# Altium schematic symbol library OltestLib.SchLib: 174 symbols (part 2 of 3)
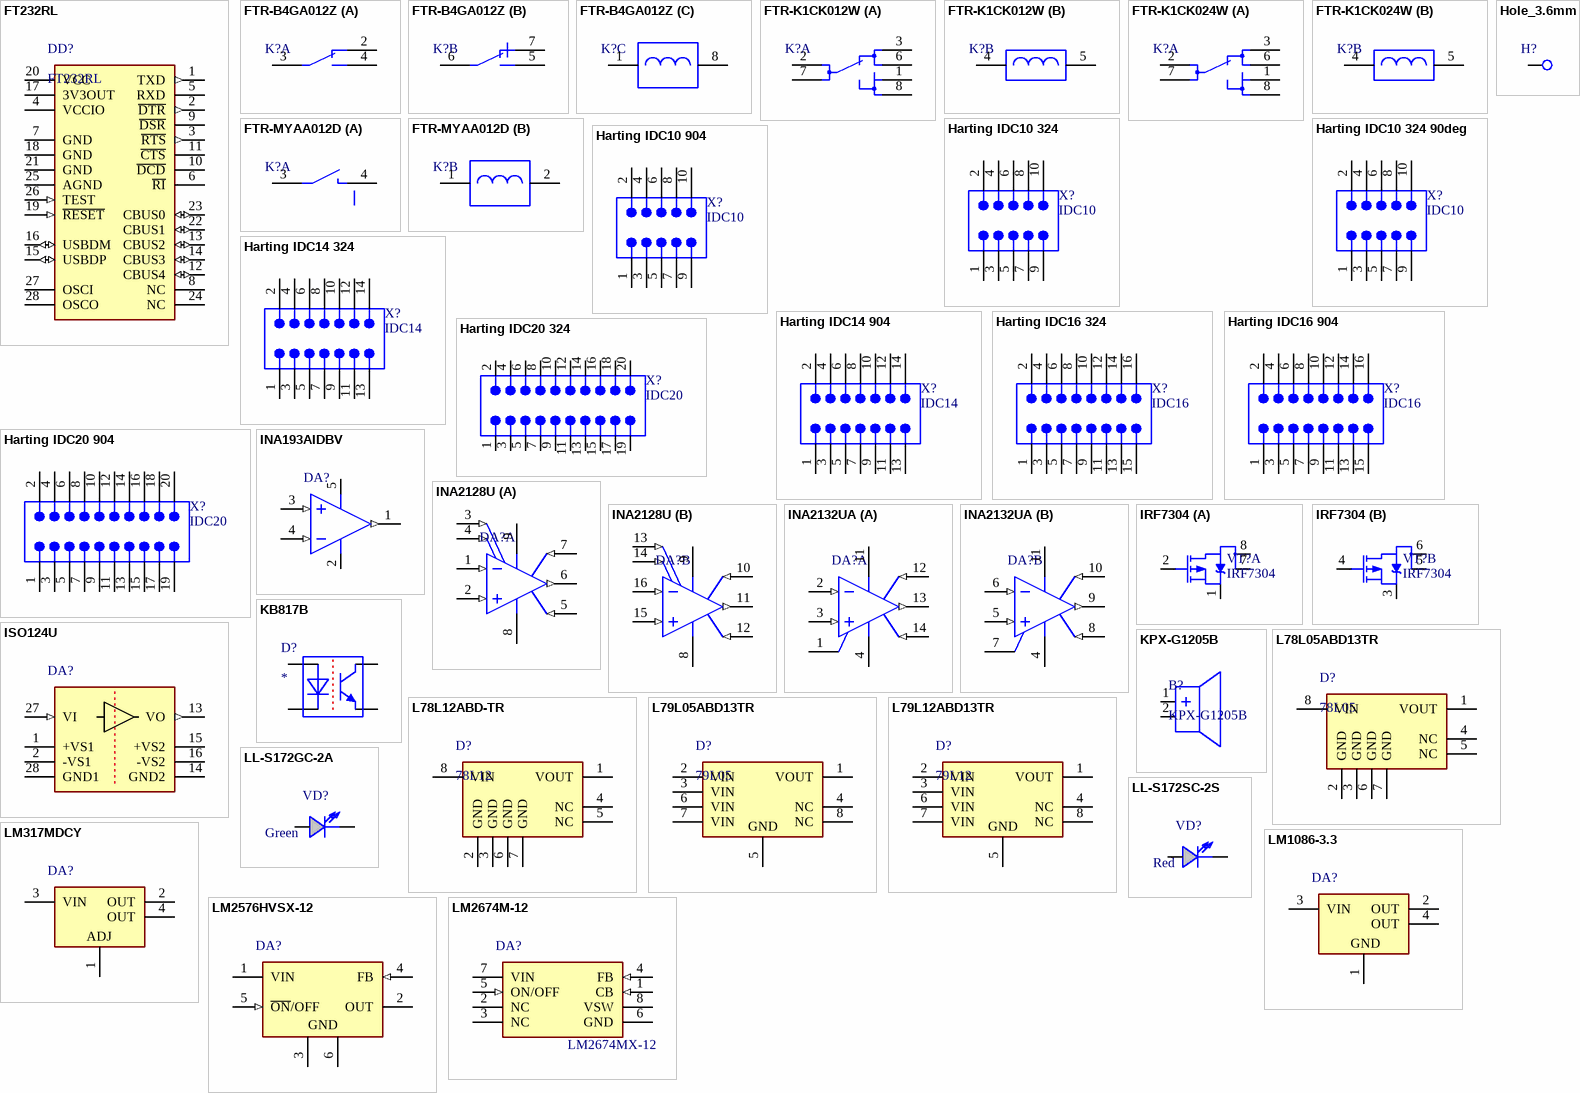
[diagram p9: symbols FT232RL to LM2674M-12]

## Harting IDC10 904
designator X?, comment IDC10
Flat Cable Connector (IDC), Standard Male Header, Straight Solder Pin, 10 Contacts, Long Levers, Performance Level 2; PartNumber: 09 18 510 6904; PCB_Layout: Complies with manufacturer's recommendation.; DrillSize: Corresponds to nominal value.; Published: 15-Nov-2004; DatasheetDocument: Sep-2003; PackageDocument: Jun-2000; PackageReference: 918510x904; Publisher: Altium Limited; ComponentLink1Description: Manufacturer Link; ComponentLink1URL: http://www.harting.com/; ComponentLink2Description: Selection Guide; ComponentLink2URL: http://www.harting.com/imperia/md/content/steckverbinderundsystemkomponenten/folder/interface_engl_chapter_09.pdf
footprint 918510x904 (Connector; IDC, Thru-Hole; 10 Position; Vertical; Pitch 2.54 mm; Body 32.30 x 8.5 x 25.75 mm (LxWxH), Locking levers)
pins: 1, 2, 3, 4, 5, 6, 7, 8, 9, 10

## Harting IDC14 324
designator X?, comment IDC14
Flat Cable Connector (IDC), Low-Profile Male Header, Straight Solder Pin, 14 Contacts, Performance Level 2; PartNumber: 09 18 514 6324; PCB_Layout: Complies with manufacturer's recommendation.; DrillSize: Corresponds to nominal value.; Published: 15-Nov-2004; DatasheetDocument: Sep-2003; PackageDocument: 03-Jun-2003; PackageReference: 918514x324; Publisher: Altium Limited; ComponentLink1Description: Manufacturer Link; ComponentLink1URL: http://www.harting.com/; ComponentLink2Description: Selection Guide; ComponentLink2URL: http://www.harting.com/imperia/md/content/steckverbinderundsystemkomponenten/folder/interface_engl_chapter_09.pdf
footprint 918514x324 (Connector; IDC, Low Profile Male Header, Thru-Hole; 14 Position; Vertical; Pitch 2.54 mm; Body 25.40 x 9.2 x 9.45 mm (LxWxH))
pins: 1, 2, 3, 4, 5, 6, 7, 8, 9, 10, 11, 12, 13, 14

## Harting IDC14 904
designator X?, comment IDC14
Flat Cable Connector (IDC), Standard Male Header, Straight Solder Pin, 14 Contacts, Long Levers, Performance Level 2; PartNumber: 09 18 514 6904; PCB_Layout: Complies with manufacturer's recommendation.; DrillSize: Corresponds to nominal value.; Published: 15-Nov-2004; DatasheetDocument: Sep-2003; PackageDocument: Jun-2000; PackageReference: 918514x904; Publisher: Altium Limited; ComponentLink1Description: Manufacturer Link; ComponentLink1URL: http://www.harting.com/; ComponentLink2Description: Selection Guide; ComponentLink2URL: http://www.harting.com/imperia/md/content/steckverbinderundsystemkomponenten/folder/interface_engl_chapter_09.pdf
footprint 918514x904 (Connector; IDC, Thru-Hole; 14 Position; Vertical; Pitch 2.54 mm; Body 37.40 x 8.5 x 25.75 mm (LxWxH), Locking levers)
pins: 1, 2, 3, 4, 5, 6, 7, 8, 9, 10, 11, 12, 13, 14

## Harting IDC16 324
designator X?, comment IDC16
Flat Cable Connector (IDC), Low-Profile Male Header, Straight Solder Pin, 16 Contacts, Performance Level 2; PartNumber: 09 18 516 6324; PCB_Layout: Complies with manufacturer's recommendation.; DrillSize: Corresponds to nominal value.; Published: 15-Nov-2004; DatasheetDocument: Sep-2003; PackageDocument: 01-Feb-2000; PackageReference: 918516x324; Publisher: Altium Limited; ComponentLink1Description: Manufacturer Link; ComponentLink1URL: http://www.harting.com/; ComponentLink2Description: Selection Guide; ComponentLink2URL: http://www.harting.com/imperia/md/content/steckverbinderundsystemkomponenten/folder/interface_engl_chapter_09.pdf
footprint 918516x324 (Connector; IDC, Low Profile Male Header, Thru-Hole; 16 Position; Vertical; Pitch 2.54 mm; Body 27.94 x 9.2 x 9.45 mm (LxWxH))
pins: 1, 2, 3, 4, 5, 6, 7, 8, 9, 10, 11, 12, 13, 14, 15, 16

## Harting IDC16 904
designator X?, comment IDC16
Flat Cable Connector (IDC), Standard Male Header, Straight Solder Pin, 16 Contacts, Long Levers, Performance Level 2; PartNumber: 09 18 516 6904; PCB_Layout: Complies with manufacturer's recommendation.; DrillSize: Corresponds to nominal value.; Published: 15-Nov-2004; DatasheetDocument: Sep-2003; PackageDocument: Jun-2000; PackageReference: 918516x904; Publisher: Altium Limited; ComponentLink1Description: Manufacturer Link; ComponentLink1URL: http://www.harting.com/; ComponentLink2Description: Selection Guide; ComponentLink2URL: http://www.harting.com/imperia/md/content/steckverbinderundsystemkomponenten/folder/interface_engl_chapter_09.pdf
footprint 918516x904 (Connector; IDC, Thru-Hole; 16 Position; Vertical; Pitch 2.54 mm; Body 39.90 x 8.5 x 25.75 mm (LxWxH), Locking levers)
pins: 1, 2, 3, 4, 5, 6, 7, 8, 9, 10, 11, 12, 13, 14, 15, 16

## Harting IDC20 324
designator X?, comment IDC20
Flat Cable Connector (IDC), Low-Profile Male Header, Straight Solder Pin, 20 Contacts, Performance Level 2; PartNumber: 09 18 520 6324; PCB_Layout: Complies with manufacturer's recommendation.; DrillSize: Corresponds to nominal value.; Published: 15-Nov-2004; DatasheetDocument: Sep-2003; PackageDocument: 01-Feb-2000; PackageReference: 918520x324; Publisher: Altium Limited; ComponentLink1Description: Manufacturer Link; ComponentLink1URL: http://www.harting.com/; ComponentLink2Description: Selection Guide; ComponentLink2URL: http://www.harting.com/imperia/md/content/steckverbinderundsystemkomponenten/folder/interface_engl_chapter_09.pdf
footprint 918520x324 (Connector; IDC, Low Profile Male Header, Thru-Hole; 20 Position; Vertical; Pitch 2.54 mm; Body 33.02 x 9.2 x 9.45 mm (LxWxH))
pins: 1, 2, 3, 4, 5, 6, 7, 8, 9, 10, 11, 12, 13, 14, 15, 16, 17, 18, 19, 20

## Harting IDC20 904
designator X?, comment IDC20
Flat Cable Connector (IDC), Standard Male Header, Straight Solder Pin, 20 Contacts, Long Levers, Performance Level 2; PartNumber: 09 18 520 6904; PCB_Layout: Complies with manufacturer's recommendation.; DrillSize: Corresponds to nominal value.; Published: 15-Nov-2004; DatasheetDocument: Sep-2003; PackageDocument: Jun-2000; PackageReference: 918520x904; Publisher: Altium Limited; ComponentLink1Description: Manufacturer Link; ComponentLink1URL: http://www.harting.com/; ComponentLink2Description: Selection Guide; ComponentLink2URL: http://www.harting.com/imperia/md/content/steckverbinderundsystemkomponenten/folder/interface_engl_chapter_09.pdf
footprint 918520x904 (Connector; IDC, Thru-Hole; 20 Position; Vertical; Pitch 2.54 mm; Body 45.00 x 8.5 x 25.75 mm (LxWxH), Locking levers)
pins: 1, 2, 3, 4, 5, 6, 7, 8, 9, 10, 11, 12, 13, 14, 15, 16, 17, 18, 19, 20

## Hole_3.6mm
designator H?  (value not drawn)
Hole_3.6; PartNumber: Hole; Manufacturer: -
footprint Hole_3.6mm
pins: 1

## INA193AIDBV
designator DA?
Current Shunt Monitor −16 V to +80 V Common-Mode Range; Manufacturer: Texas Instruments; PartNumber: INA193AIDBV
footprint TI-DBV5_M (SOT23, 5-Leads, Body 2.9x1.6mm, Pitch 0.95mm, IPC Low Density)
pins: 1 OUT (out), 2 GND (power), 3 +IN (in), 4 -IN (in), 5 +V (power)

## INA2128U
designator DA?
Dual, Low Power Instrumentation Amplifier, -40 to 85 degC, 16-pin SOIC (DW16), Green (RoHS & no Sb/Br); Manufacturer: Texas Instruments; PartNumber: INA2128U; CMRR(Min)(dB): 120; Dual Supply: TRUE; Gain(V/V): 1 to 10000; Input Offset (+/-)(Max)(uV): 50; Number of Channels: 2; Slew Rate(Typ)(V/us): 4; SubFamily: Difference Amplifier; Vs(Max)(V): 36; Vs(Min)(V): 4.5; DatasheetVersion: SBOS035A; PackageVersion: 4040000-2/G, 01/2011; PackageReference: DW16; PackageDescription: 16-Pin Plastic Small Outline, Body 10.30 x 7.50 mm, Pitch 1.27 mm; Eco-Plan: Green (RoHS & no Sb/Br); Mounting Technology: Surface Mount; Code_JEDEC: MS-013; ComponentLink1Description: Manufacturer URL; ComponentLink1URL: http://www.ti.com/; ComponentLink2Description: Datasheet; ComponentLink2URL: http://www.ti.com/general/docs/lit/getliterature.tsp?genericPartNumber=INA2128&fileType=pdf; ComponentLink3Description: Package Specification; ComponentLink3URL: http://www.ti.com/litv/pdf/msoi003g
footprint TI-DW16_N (SOIC, 16-Leads, Body 10.5x7.6mm, Pitch 1.27mm, IPC Medium Density)
pins on every part: 8 V- (power), 9 V+ (power)
part A pins: 1 VINA- (in), 2 VINA+ (in), 3 RGA (in), 4 RGA (in), 5 REFA (in), 6 VOA (out), 7 SENSEA (in)
part B pins: 10 SENSEB (in), 11 VOB (out), 12 REFB (in), 13 RGB (in), 14 RGB (in), 15 VINB+ (in), 16 VINB- (in)

## INA2132UA
designator DA?
Dual, Low Power, Single-Supply Difference Amplifier, -40 to 85 degC, 14-pin SOIC (D14), Green (RoHS & no Sb/Br); Manufacturer: Texas Instruments; PartNumber: INA2132UA; CMRR(Min)(dB): 74; Gain(V/V): 1; Input Offset (+/-)(Max)(uV): 500; Number of Channels: 2; Slew Rate(Typ)(V/us): 0.1; Vs(Max)(V): 36; Vs(Min)(V): 2.7; DatasheetVersion: SBOS108; PackageVersion: 4040047-5/M, 06/2011; PackageReference: D14; PackageDescription: 14-Pin Plastic Small Outline, Body 8.65 x 3.9 mm, Pitch 1.27 mm; Eco-Plan: Green (RoHS & no Sb/Br); SubFamily: Difference Amplifier; Mounting Technology: Surface Mount; Code_JEDEC: MS-012; ComponentLink1Description: Manufacturer URL; ComponentLink1URL: http://www.ti.com/; ComponentLink2Description: Datasheet; ComponentLink2URL: http://www.ti.com/general/docs/lit/getliterature.tsp?genericPartNumber=INA2132&fileType=pdf; ComponentLink3Description: Package Specification; ComponentLink3URL: http://www.ti.com/lit/ml/mpds177g/mpds177g.pdf
footprint TI-D14_N (SOIC, 14-Leads, Body 8.75x4mm, Pitch 1.27mm, IPC Medium Density)
pins on every part: 4 V- (power), 11 V+ (power)
part A pins: 1 NC, 2 IN A- (in), 3 IN A+ (in), 12 SENSE A (in), 13 OUT A (out), 14 REF A (in)
part B pins: 5 IN B+ (in), 6 IN B- (in), 7 NC, 8 REF B (in), 9 OUT B (out), 10 SENSE B (in)

## IRF7304
designator VT?
Dual P-Channel HEXFET; Manufacturer: IR; PartNumber: IRF7304
footprint TI-D8_M (SOIC, 8-Leads, Body 4.9x3.9mm, Pitch 1.27mm, IPC Low Density)
part A pins: 1 S, 2 G, 7 D, 8 D
part B pins: 3 S, 4 G, 5 D, 6 D

## ISO124U
designator DA?
Precision Low Cost Isolation Amplifier, -25 to 85 degC, 8-pin SOIC (DVA8), Green (RoHS & no Sb/Br); Manufacturer: Texas Instruments; PartNumber: ISO124U/1KE4; Gain Non-Linearity (+/-)(Max)(%): 0.01; Isolation Mode Rejection 60Hz(Typ)(dB): 140; Isolation Voltage Pulse/Test Peak(V): 2400; Leakage Current at 240V/60Hz(Max)(uArms): 0.5; Small Signal Bandwidth(Typ)(kHz): 50; DatasheetVersion: SBOS074C; PackageVersion: 4202103/B, 08/2001; PackageReference: DVA8; PackageDescription: 8-Pin Plastic Small Outline, Body 17.9 x 7.5 mm, Pitch 1.27 mm; Supplier Part Number 1: ISO124U/1KE4-ND; Supplier Part Number 2: 28M6202; Supplier Part Number 3: 595-ISO124U/1KE4; Eco-Plan: Green (RoHS & no Sb/Br); SubFamily: Isolation Amplifier; Mounting Technology: Surface Mount; Code_JEDEC: MS-013-AE; ComponentLink1Description: Manufacturer URL; ComponentLink1URL: http://www.ti.com/; ComponentLink2Description: Datasheet; ComponentLink2URL: http://www.ti.com/general/docs/lit/getliterature.tsp?genericPartNumber=ISO124&fileType=pdf; ComponentLink3Description: Package Specification; ComponentLink3URL: http://www.ti.com/litv/pdf/mcdi039
footprint TI-DVA8_N (SOIC, 8-Leads, Body 17.9x7.5mm, Pitch 1.27mm, IPC Medium Density)
pins: 1 +VS1 (power), 2 -VS1 (power), 13 VO (out), 14 GND2 (power), 15 +VS2 (power), 16 -VS2 (power), 27 VI (in), 28 GND1 (power)

## KB817B
designator D?
Optocoupler 5kV, CTR 130-260%; Manufacturer: Kingbright; PartNumber: KB817B
footprint DIP4
pins: 1 ANODE, 2 CATHODE, 3 E, 4 C

## KPX-G1205B
designator B?
Magnetic Buzzer; Manufacturer: KEPO; PartNumber: KPX-G1205B
footprint KPX-G12
pins: 1 +, 2 -

## L78L05ABD13TR
designator D?, comment 78L05
Positive voltage regulator 5V 0.1A; Manufacturer: STMicroelectronics; PartNumber: L78L05ABD13TR
footprint TI-D8_M (SOIC, 8-Leads, Body 4.9x3.9mm, Pitch 1.27mm, IPC Low Density)
pins: 1 VOUT (power), 2 GND (power), 3 GND (power), 4 NC, 5 NC, 6 GND (power), 7 GND (power), 8 VIN (power)

## L78L12ABD-TR
designator D?, comment 78L12
Positive voltage regulator 12V 0.1A; Manufacturer: STMicroelectronics; PartNumber: L78L12ABD-TR
footprint TI-D8_M (SOIC, 8-Leads, Body 4.9x3.9mm, Pitch 1.27mm, IPC Low Density)
pins: 1 VOUT (power), 2 GND (power), 3 GND (power), 4 NC, 5 NC, 6 GND (power), 7 GND (power), 8 VIN (power)

## L79L05ABD13TR
designator D?, comment 79L05
Negative voltage regulators -5V 0.1A; Manufacturer: STMicroelectronics; PartNumber: L79L05ABD13TR
footprint TI-D8_M (SOIC, 8-Leads, Body 4.9x3.9mm, Pitch 1.27mm, IPC Low Density)
pins: 1 VOUT (power), 2 VIN (power), 3 VIN (power), 4 NC, 5 GND (power), 6 VIN (power), 7 VIN (power), 8 NC

## L79L12ABD13TR
designator D?, comment 79L12
Negative voltage regulators -12V 0.1A; Manufacturer: STMicroelectronics; PartNumber: L79L12ABD13TR
footprint TI-D8_M (SOIC, 8-Leads, Body 4.9x3.9mm, Pitch 1.27mm, IPC Low Density)
pins: 1 VOUT (power), 2 VIN (power), 3 VIN (power), 4 NC, 5 GND (power), 6 VIN (power), 7 VIN (power), 8 NC

## LL-S172GC-2A
designator VD?  value Green
LED Green SMD; PartNumber: LL-S172GC-2A; Manufacturer: Lucky Light
footprint SMD_LED_LL
footprint SMD_LED_LL_GREEN (Chip Diode, 2-Leads, Body 2,00x1,25mm, IPC Low Density)
pins: 1 ANODE, 2 CATHODE

## LL-S172SC-2S
designator VD?  value Red
LED Red SMD; PartNumber: LL-S172SC-2S; Manufacturer: Lucky Light
footprint SMD_LED_LL
footprint SMD_LED_LL_RED (Chip Diode, 2-Leads, Body 2,00x1,25mm, IPC Low Density)
pins: 1 ANODE, 2 CATHODE

## LM317MDCY
designator DA?
3-Terminal Adjustable Regulator, 40V Input-to-Output,  1.25-37, 0.5A Output, -40 to 125 degC, SOT-223; Manufacturer: Texas Instruments; PartNumber: LM317MDCY
footprint TI-DCY4_M (SOT223, 4-Leads, Body 6.5x3.5mm, Pitch 2.3mm, IPC Low Density)
pins: 1 Adjust (power), 2 OUT (power), 3 VIN (power), 4 OUT (power)
text: ADJ

## LM1086-3.3
designator DA?
Low Drop Regulator, 1.5V Input-to-Output, 4.75-27V, 1.5A Output, -40 to 125 degC, TO-263; Manufacturer: Texas Instruments; PartNumber: LM1086-3.3
footprint TO-263 (DDPAK/TO-263 (3) 10.18 mm x 8.41 mm)
pins: 1 GND (power), 2 OUT (power), 3 VIN (power), 4 OUT (power)

## LM2576HVSX-12
designator DA?
Buck Step Down Regulator, 60 V Input and 12 V Output, -40 to 125 degC, 5-Pin DDPAK/TO-263 (KTT); Manufacturer: Texas Instruments; PartNumber: LM2576HVSX-12/NOPB
footprint KTT5_M (D2-PAK, 6-Leads, Body 8.9x10.2mm, Pitch 1.7mm, Lead Span 15.2mm, IPC Low Density)
pins: 1 VIN (power), 2 OUT (power), 3 GND (power), 4 FB (in), 5 ~{ON}/OFF (in), 6 GND (power)

## LM2674M-12
designator DA?  PartNumber: LM2674MX-12
Step-Down Power Converter 12V 0.5A; Manufacturer: STMicroelectronics
footprint TI-D8_M (SOIC, 8-Leads, Body 4.9x3.9mm, Pitch 1.27mm, IPC Low Density)
pins: 1 CB (in), 2 NC, 3 NC, 4 FB (in), 5 ON/OFF (in), 6 GND (power), 7 VIN (power), 8 VSW (power)

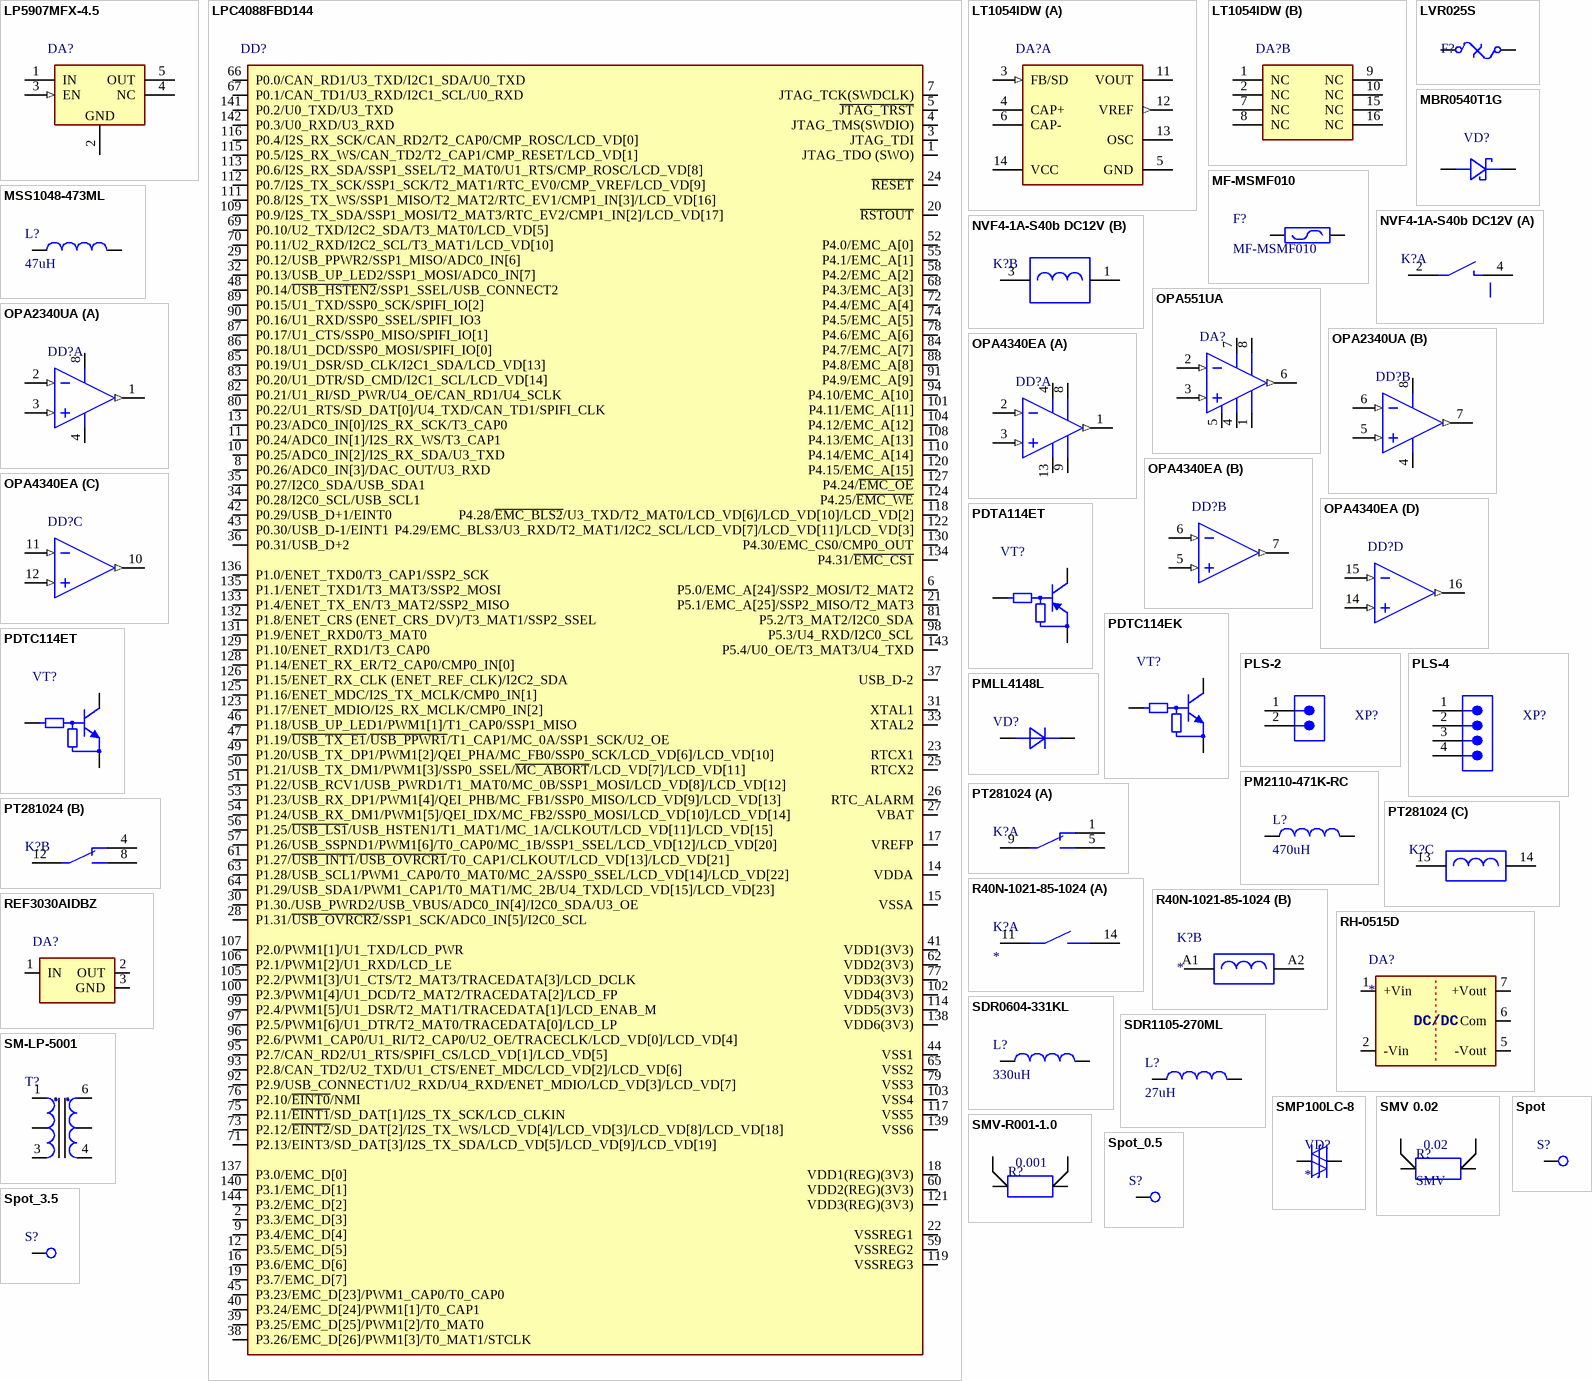
[diagram p5: symbols LP5907MFX-4.5 to Spot_3.5]

## LP5907MFX-4.5
designator DA?
Ultra-Low-Noise LDO, 250 mA, Fixed 4.5 V Output; Manufacturer: Texas Instruments; PartNumber: LP5907MFX-4.5
footprint TI-DBV5_M (SOT23, 5-Leads, Body 2.9x1.6mm, Pitch 0.95mm, IPC Low Density)
pins: 1 IN (power) "Input supply voltage", 2 GND (power) "Ground", 3 EN (in) "Enable input", 4 NC "No connected", 5 OUT (power) "Regulated output voltage"

## LPC4088FBD144
designator DD?
32-bit ARM Cortex-M4 MCU; Manufactorer: NXP; PartNumber: LPC4088FBD144
footprint SOT486-1_V (Thin QFP, 144-Leads, Body 20x20mm, Pitch 0.5mm, NXP Recommended)
pins: 1 JTAG_TDO (SWO), 2 P3.3/EMC_D[3], 3 JTAG_TDI, 4 JTAG_TMS(SWDIO), 5 ~{JTAG_TRST}, 6 P5.0/EMC_A[24]/SSP2_MOSI/T2_MAT2, 7 JTAG_TCK(SWDCLK), 8 P0.26/ADC0_IN[3]/DAC_OUT/U3_RXD, 9 P3.4/EMC_D[4], 10 P0.25/ADC0_IN[2]/I2S_RX_SDA/U3_TXD, 11 P0.24/ADC0_IN[1]/I2S_RX_WS/T3_CAP1, 12 P3.5/EMC_D[5], 13 P0.23/ADC0_IN[0]/I2S_RX_SCK/T3_CAP0, 14 VDDA, 15 VSSA, 16 P3.6/EMC_D[6], 17 VREFP, 18 VDD1(REG)(3V3), 19 P3.7/EMC_D[7], 20 ~{RSTOUT}, 21 P5.1/EMC_A[25]/SSP2_MISO/T2_MAT3, 22 VSSREG1, 23 RTCX1, 24 ~{RESET}, 25 RTCX2, 26 RTC_ALARM, 27 VBAT, 28 P1.31/~{USB_OVRCR2}/SSP1_SCK/ADC0_IN[5]/I2C0_SCL, 29 P0.12/USB_PPWR2/SSP1_MISO/ADC0_IN[6], 30 P1.30./USB_PWRD2/USB_VBUS/ADC0_IN[4]/I2C0_SDA/U3_OE, 31 XTAL1, 32 P0.13/USB_UP_LED2/SSP1_MOSI/ADC0_IN[7], 33 XTAL2, 34 P0.28/I2C0_SCL/USB_SCL1, 35 P0.27/I2C0_SDA/USB_SDA1, 36 P0.31/USB_D+2, 37 USB_D-2, 38 P3.26/EMC_D[26]/PWM1[3]/T0_MAT1/STCLK, 39 P3.25/EMC_D[25]/PWM1[2]/T0_MAT0, 40 P3.24/EMC_D[24]/PWM1[1]/T0_CAP1, 41 VDD1(3V3), 42 P0.29/USB_D+1/EINT0, 43 P0.30/USB_D-1/EINT1, 44 VSS1, 45 P3.23/EMC_D[23]/PWM1_CAP0/T0_CAP0, 46 P1.18/USB_UP_LED1/PWM1[1]/T1_CAP0/SSP1_MISO, 47 P1.19/~{USB_TX_E1}/~{USB_PPWR1}/T1_CAP1/MC_0A/SSP1_SCK/U2_OE, 48 P0.14/~{USB_HSTEN2}/SSP1_SSEL/USB_CONNECT2, 49 P1.20/USB_TX_DP1/PWM1[2]/QEI_PHA/MC_FB0/SSP0_SCK/LCD_VD[6]/LCD_VD[10], 50 P1.21/USB_TX_DM1/PWM1[3]/SSP0_SSEL/~{MC_ABORT}/LCD_VD[7]/LCD_VD[11], 51 P1.22/USB_RCV1/USB_PWRD1/T1_MAT0/MC_0B/SSP1_MOSI/LCD_VD[8]/LCD_VD[12], 52 P4.0/EMC_A[0], 53 P1.23/USB_RX_DP1/PWM1[4]/QEI_PHB/MC_FB1/SSP0_MISO/LCD_VD[9]/LCD_VD[13], 54 P1.24/USB_RX_DM1/PWM1[5]/QEI_IDX/MC_FB2/SSP0_MOSI/LCD_VD[10]/LCD_VD[14], 55 P4.1/EMC_A[1], 56 P1.25/~{USB_LS1}/USB_HSTEN1/T1_MAT1/MC_1A/CLKOUT/LCD_VD[11]/LCD_VD[15], 57 P1.26/USB_SSPND1/PWM1[6]/T0_CAP0/MC_1B/SSP1_SSEL/LCD_VD[12]/LCD_VD[20], 58 P4.2/EMC_A[2], 59 VSSREG2, 60 VDD2(REG)(3V3), 61 P1.27/~{USB_INT1}/~{USB_OVRCR1}/T0_CAP1/CLKOUT/LCD_VD[13]/LCD_VD[21], 62 VDD2(3V3), 63 P1.28/USB_SCL1/PWM1_CAP0/T0_MAT0/MC_2A/SSP0_SSEL/LCD_VD[14]/LCD_VD[22], 64 P1.29/USB_SDA1/PWM1_CAP1/T0_MAT1/MC_2B/U4_TXD/LCD_VD[15]/LCD_VD[23], 65 VSS2, 66 P0.0/CAN_RD1/U3_TXD/I2C1_SDA/U0_TXD, 67 P0.1/CAN_TD1/U3_RXD/I2C1_SCL/U0_RXD, 68 P4.3/EMC_A[3], 69 P0.10/U2_TXD/I2C2_SDA/T3_MAT0/LCD_VD[5], 70 P0.11/U2_RXD/I2C2_SCL/T3_MAT1/LCD_VD[10], 71 P2.13/EINT3/SD_DAT[3]/I2S_TX_SDA/LCD_VD[5]/LCD_VD[9]/LCD_VD[19], 72 P4.4/EMC_A[4], 73 P2.12/~{EINT2}/SD_DAT[2]/I2S_TX_WS/LCD_VD[4]/LCD_VD[3]/LCD_VD[8]/LCD_VD[18], 74 P4.5/EMC_A[5], 75 P2.11/~{EINT1}/SD_DAT[1]/I2S_TX_SCK/LCD_CLKIN, 76 P2.10/~{EINT0}/NMI, 77 VDD3(3V3), 78 P4.6/EMC_A[6], 79 VSS3, 80 P0.22/U1_RTS/SD_DAT[0]/U4_TXD/CAN_TD1/SPIFI_CLK, 81 P5.2/T3_MAT2/I2C0_SDA, 82 P0.21/U1_RI/SD_PWR/U4_OE/CAN_RD1/U4_SCLK, 83 P0.20/U1_DTR/SD_CMD/I2C1_SCL/LCD_VD[14], 84 P4.7/EMC_A[7], 85 P0.19/U1_DSR/SD_CLK/I2C1_SDA/LCD_VD[13], 86 P0.18/U1_DCD/SSP0_MOSI/SPIFI_IO[0], 87 P0.17/U1_CTS/SSP0_MISO/SPIFI_IO[1], 88 P4.8/EMC_A[8], 89 P0.15/U1_TXD/SSP0_SCK/SPIFI_IO[2], 90 P0.16/U1_RXD/SSP0_SSEL/SPIFI_IO3, 91 P4.9/EMC_A[9], 92 P2.9/USB_CONNECT1/U2_RXD/U4_RXD/ENET_MDIO/LCD_VD[3]/LCD_VD[7], 93 P2.8/CAN_TD2/U2_TXD/U1_CTS/ENET_MDC/LCD_VD[2]/LCD_VD[6], 94 P4.10/EMC_A[10], 95 P2.7/CAN_RD2/U1_RTS/SPIFI_CS/LCD_VD[1]/LCD_VD[5], 96 P2.6/PWM1_CAP0/U1_RI/T2_CAP0/U2_OE/TRACECLK/LCD_VD[0]/LCD_VD[4], 97 P2.5/PWM1[6]/U1_DTR/T2_MAT0/TRACEDATA[0]/LCD_LP, 98 P5.3/U4_RXD/I2C0_SCL, 99 P2.4/PWM1[5]/U1_DSR/T2_MAT1/TRACEDATA[1]/LCD_ENAB_M, 100 P2.3/PWM1[4]/U1_DCD/T2_MAT2/TRACEDATA[2]/LCD_FP, 101 P4.11/EMC_A[11], 102 VDD4(3V3), 103 VSS4, 104 P4.12/EMC_A[12], 105 P2.2/PWM1[3]/U1_CTS/T2_MAT3/TRACEDATA[3]/LCD_DCLK, 106 P2.1/PWM1[2]/U1_RXD/LCD_LE, 107 P2.0/PWM1[1]/U1_TXD/LCD_PWR, 108 P4.13/EMC_A[13], 109 P0.9/I2S_TX_SDA/SSP1_MOSI/T2_MAT3/RTC_EV2/CMP1_IN[2]/LCD_VD[17], 110 P4.14/EMC_A[14], 111 P0.8/I2S_TX_WS/SSP1_MISO/T2_MAT2/RTC_EV1/CMP1_IN[3]/LCD_VD[16], 112 P0.7/I2S_TX_SCK/SSP1_SCK/T2_MAT1/RTC_EV0/CMP_VREF/LCD_VD[9], 113 P0.6/I2S_RX_SDA/SSP1_SSEL/T2_MAT0/U1_RTS/CMP_ROSC/LCD_VD[8], 114 VDD5(3V3), 115 P0.5/I2S_RX_WS/CAN_TD2/T2_CAP1/CMP_RESET/LCD_VD[1], 116 P0.4/I2S_RX_SCK/CAN_RD2/T2_CAP0/CMP_ROSC/LCD_VD[0], 117 VSS5, 118 P4.28/~{EMC_BLS2}/U3_TXD/T2_MAT0/LCD_VD[6]/LCD_VD[10]/LCD_VD[2], 119 VSSREG3, 120 P4.15/EMC_A[15], 121 VDD3(REG)(3V3), 122 P4.29/EMC_BLS3/U3_RXD/T2_MAT1/I2C2_SCL/LCD_VD[7]/LCD_VD[11]/LCD_VD[3], 123 P1.17/ENET_MDIO/I2S_RX_MCLK/CMP0_IN[2], 124 P4.25/~{EMC_WE}, 125 P1.16/ENET_MDC/I2S_TX_MCLK/CMP0_IN[1], 126 P1.15/ENET_RX_CLK (ENET_REF_CLK)/I2C2_SDA, 127 P4.24/~{EMC_OE}, 128 P1.14/ENET_RX_ER/T2_CAP0/CMP0_IN[0], 129 P1.10/ENET_RXD1/T3_CAP0, 130 P4.30/EMC_CS0/CMP0_OUT, 131 P1.9/ENET_RXD0/T3_MAT0, 132 P1.8/ENET_CRS (ENET_CRS_DV)/T3_MAT1/SSP2_SSEL, 133 P1.4/ENET_TX_EN/T3_MAT2/SSP2_MISO, 134 P4.31/~{EMC_CS1}, 135 P1.1/ENET_TXD1/T3_MAT3/SSP2_MOSI, 136 P1.0/ENET_TXD0/T3_CAP1/SSP2_SCK, 137 P3.0/EMC_D[0], 138 VDD6(3V3), 139 VSS6, 140 P3.1/EMC_D[1], 141 P0.2/U0_TXD/U3_TXD, 142 P0.3/U0_RXD/U3_RXD, 143 P5.4/U0_OE/T3_MAT3/U4_TXD, 144 P3.2/EMC_D[2]

## LT1054IDW
designator DA?
-5 V, Buck / Boost Charge Pump, 100 mA, 3.5 to 15 V Input, -40 to 85 degC, 16-pin SOIC (DW16), Green (RoHS & no Sb/Br); Manufacturer: Texas Instruments; PartNumber: LT1054IDW; Iout(Max)(A): 0.1; Iq(Typ)(mA): 2.5; Switching Frequency(Max)(kHz): 35; Vin(Max)(V): 15; Vin(Min)(V): 3.5; Vout(Max)(V): -5.2; Vout(Min)(V): -4.7; DatasheetVersion: SLVS033F; PackageVersion: 4040000-2/G; PackageReference: DW16; PackageDescription: 16-Pin Plastic Small Outline, Body 10.30 x 7.50 mm, Pitch 1.27 mm; Eco-Plan: Green (RoHS & no Sb/Br); Preset Vout(V): -5; Topology: Buck/Boost; Mounting Technology: Surface Mount; Code_JEDEC: MS-013; ComponentLink1Description: Manufacturer URL; ComponentLink1URL: http://www.ti.com/; ComponentLink2Description: Datasheet; ComponentLink2URL: http://www.ti.com/general/docs/lit/getliterature.tsp?genericPartNumber=LT1054&fileType=pdf; ComponentLink3Description: Package Specification; ComponentLink3URL: http://www.ti.com/litv/pdf/msoi003g
footprint TI-DW16_N (SOIC, 16-Leads, Body 10.5x7.6mm, Pitch 1.27mm, IPC Medium Density)
part A pins: 3 FB/SD (in), 4 CAP+, 5 GND (power), 6 CAP-, 11 VOUT (power), 12 VREF (out), 13 OSC, 14 VCC (power)
part B pins: 1 NC, 2 NC, 7 NC, 8 NC, 9 NC, 10 NC, 15 NC, 16 NC

## LVR025S
designator F?  (value not drawn)
Fuse Thermal; Manufacturer: TE Connectivity; PartNumber: LVR025S
footprint LVR025S (Fuse Thermal)
pins: 1, 2

## MBR0540T1G
designator VD?  (value not drawn)
0.5A/40V Schottky Diode (SOD-123); Manufacturer: ON Semiconductor; PartNumber: MBR0540T1G
footprint SOD-123 (Molded Diode, 2-Leads, Body 3,71x1,60mm)
pins: 1 Cathode, 2 Anode

## MF-MSMF010
designator F?
Manufacturer: BOURNS; PartNumber: MF-MSMF010
pins: 1, 2

## MSS1048-473ML
designator L?, comment 47uH
47uH/2.42A 20% Ferrite inductor SMD (10x10.2x4.8); Manufacturer: TDK(EPCOS); PartNumber: MSS1048-473ML; Value: 47uH
footprint SMD_L_L10_W10.2 (Power Inductor, 2-Leads, Body 10,0x10,2mm)
pins: 1, 2

## NVF4-1A-S40b DC12V
designator K?
1 POLE - 40A Power Relay PCB; PartNumber: NVF4-1A-S40b DC12V; Manufacturer: Fujitsu
footprint NVF4-1A-S40b
part A pins: 2, 4
part B pins: 1, 3

## OPA551UA
designator DA?
HV HC Operational Amplifier, -40 to 125 degC, 8-pin SOIC (D8), OC 200mA; Manufacturer: Texas Instruments; PartNumber: OPA551UA
footprint TI-D8_M (SOIC, 8-Leads, Body 4.9x3.9mm, Pitch 1.27mm, IPC Low Density)
pins: 1 V- (power), 2 IN - (in), 3 IN + (in), 4 V- (power), 5 V- (power), 6 OUT (out), 7 V+ (power), 8 Flag

## OPA2340UA
designator DD?
Single-Supply, Rail-to-Rail Operational Amplifier MicroAmplifier(TM) Series, 2.5 to 5.5 V, -40 to 85 degC, 8-pin SOIC (D8), Green (RoHS & no Sb/Br); Manufacturer: Texas Instruments; PartNumber: OPA2340UA
footprint TI-D8_M (SOIC, 8-Leads, Body 4.9x3.9mm, Pitch 1.27mm, IPC Low Density)
pins on every part: 4 V- (power), 8 V+ (power)
part A pins: 1 OUT A (out), 2 IN A- (in), 3 IN A+ (in)
part B pins: 5 IN B+ (in), 6 IN B- (in), 7 OUT B (out)

## OPA4340EA
designator DD?
Single-Supply, Rail-to-Rail Operational Amplifier MicroAmplifier(TM) Series, 2.5 to 5.5 V, -40 to 85 degC, 16-pin SSOP16, Green (RoHS & no Sb/Br); Manufacturer: Texas Instruments; PartNumber: OPA4340EA
footprint SSOP16 (SSOP, 16-Leads, Body 6.19x3.98mm, Pitch 0.635mm)
part A pins: 1 OUT A (out), 2 IN A- (in), 3 IN A+ (in), 4 - (power), 8 -, 9 -, 13 - (power)
part B pins: 5 IN B+ (in), 6 IN B- (in), 7 OUT B (out)
part C pins: 10 OUT C (out), 11 IN C- (in), 12 IN C+ (in)
part D pins: 14 IN D+ (in), 15 IN D- (in), 16 OUT D (out)

## PDTA114ET
designator VT?
Digital Transistor (BRT), R1=10 kOhm, R2=10 kOhm, PNP Transistor; Manufacturer: NXP; PartNumber: PDTA114ET
footprint SOT-23-3 (SOT23, 3-Leads, Body 2.92x1.3mm, Pitch 0.95mm)
pins: 1 B, 2 E, 3 C

## PDTC114EK
designator VT?
NPN res-equipped transistor, R1=10 kOhm, R2=10 kOhm; Manufacturer: Philips; PartNumber: PDTC114EK
footprint SOT-23-3 (SOT23, 3-Leads, Body 2.92x1.3mm, Pitch 0.95mm)
pins: 1 B, 2 E, 3 C

## PDTC114ET
designator VT?
Digital Transistor (BRT), R1=10 kOhm, R2=10 kOhm, NPN Transistor; Manufacturer: On Semiconductor; PartNumber: PDTC114ET
footprint SOT-23-3 (SOT23, 3-Leads, Body 2.92x1.3mm, Pitch 0.95mm)
pins: 1 B, 2 E, 3 C

## PLS-2
designator XP?  (value not drawn)
Low-Profile Male Header, Straight Solder Pin, 2 Contacts; Manufacturer: Morethanall; PartNumber: PLS-40
footprint pls-2 (Connector; IDC, Low Profile Male Header, Thru-Hole; 2 Position; Vertical; Pitch 2.54 mm)
pins: 1, 2

## PLS-4
designator XP?  (value not drawn)
Low-Profile Male Header, Straight Solder Pin, 4 Contacts; Manufacturer: Morethanall; PartNumber: PLS-40
footprint PLS-4 (Connector; IDC, Low Profile Male Header, Thru-Hole; 10 Position; Vertical; Pitch 2.54 mm)
pins: 1, 2, 3, 4

## PM2110-471K-RC
designator L?, comment 470uH
SMD Power Inductor; Manufacturer: BOURNS; PartNumber: PM2110-471K-RC; Value: 470uH
footprint PM2110
pins: 1, 2

## PMLL4148L
designator VD?  (value not drawn)
SMD Diod Vr=75V If=0.2A; Manufacturer: NXP; PartNumber: PMLL4148L
footprint SOD80C (MELF Diode, 2-Leads, Body 3,50x1,53mm, IPC Low Density)
pins: 1 ANODE, 2 CATHODE

## PT281024
designator K?
400VAC 12A DPDT 12VDC; PartNumber: 4-1419135-5; Manufacturer: TE Connectivity
footprint PT281024
part A pins: 1 12, 5 14, 9 11
part B pins: 4, 8, 12
part C pins: 13 A1, 14 A2
1 alternate drawing of the same symbol

## R40N-1021-85-1024
designator K?
240VAC 40A 1NO 24VDC; Manufacturer: RELPOL; PurtNumber: R40N-1021-85-1024
part A pins: 11, 14
part B pins: A1, A2

## REF3030AIDBZ
designator DA?
3.0 V, 50 ppm / degC, 50 uA Series (Bandgap) Voltage Reference, -40 to 125 degC, 3-pin SOT-23 (DBZ); Manufacturer: Texas Instruments; PartNumber: REF3030AIDBZR
footprint sot-23-3 (SOT23, 3-Leads, Body 2.92x1.3mm, Pitch 0.95mm)
pins: 1 IN (power), 2 OUT (power), 3 GND (power)

## RH-0515D
designator DA?
DC/DC; Manufacturer: Recom; RH-0515D: PartNumber
footprint SIP7 12567 (DC/DC)
pins: 1 +Vin, 2 -Vin, 5 -Vout, 6 Com, 7 +Vout

## SDR0604-331KL
designator L?, comment 330uH
330uH/0.27A 10% SMD Power Inductor (D5.8xH4.8); Manufacturer: Bourns; PartNumber: SDR0604-331KL; Value: 330uH
footprint SMD_L_D5.8_H4.8 (SMD power inductor)
pins: 1, 2

## SDR1105-270ML
designator L?, comment 27uH
27uH/2.8A 20% SMD Power Inductor SMD (10x11.1x4.8); Manufacturer: Bourns; PartNumber: SDR1105-270ML; Value: 27uH
footprint smd_L_L10_w11.1 (SMD L L10 W11.1)
pins: 1, 2

## SM-LP-5001
designator T?  (value not drawn)
Surface Mount Line Matching Transformer; Manufacturer: Bourns; PartNumber: SM-LP-5001
footprint SM-LP-5001 (Surface Mount Line Matching Transformer)
pins: 1, 2, 3, 4, 5, 6

## SMP100LC-8
designator VD?
SMP100LC-8; Manufacturer: ST; PartNumber: SMP100LC-8
footprint SMP100LC (SODFL, 2-Leads, Body 3,63x5,35mm, IPC Low Density)
pins: 1, 2

## SMV 0.02
designator R?, comment SMV  value 0.02
SMV 5W R020 1% 30ppm; PartNumber: SMV-R020-1.0; Manufacturer: ISABELLENHUETTE
footprint SMV
pins: 1, 2, 3, 4

## SMV-R001-1.0
designator R?, comment value 0.001  (hidden comment: SMV)
SMV 5W R001 1%; PartNumber: SMV-R001-1.0; Manufacturer: ISABELLENHUETTE
footprint SMV
pins: 1, 2, 3, 4

## Spot
designator S?, comment SPOT  (value not drawn)
Manufacturer: -; PartNumber: Spot
footprint Spot (Spot 1mm)
pins: 1

## Spot_0.5
designator S?  (value not drawn)
Spot; Manufacturer: -; PartNumber: Spot_0.5
footprint spot_0.5 (Spot 0.5mm)
pins: 1

## Spot_3.5
designator S?, comment SPOT 3.5  (value not drawn)
Spot_3.5; Manufacturer: -; PartNumber: Spot_3.5
footprint Spot_3.5 (Spot 3.5mm)
pins: 1

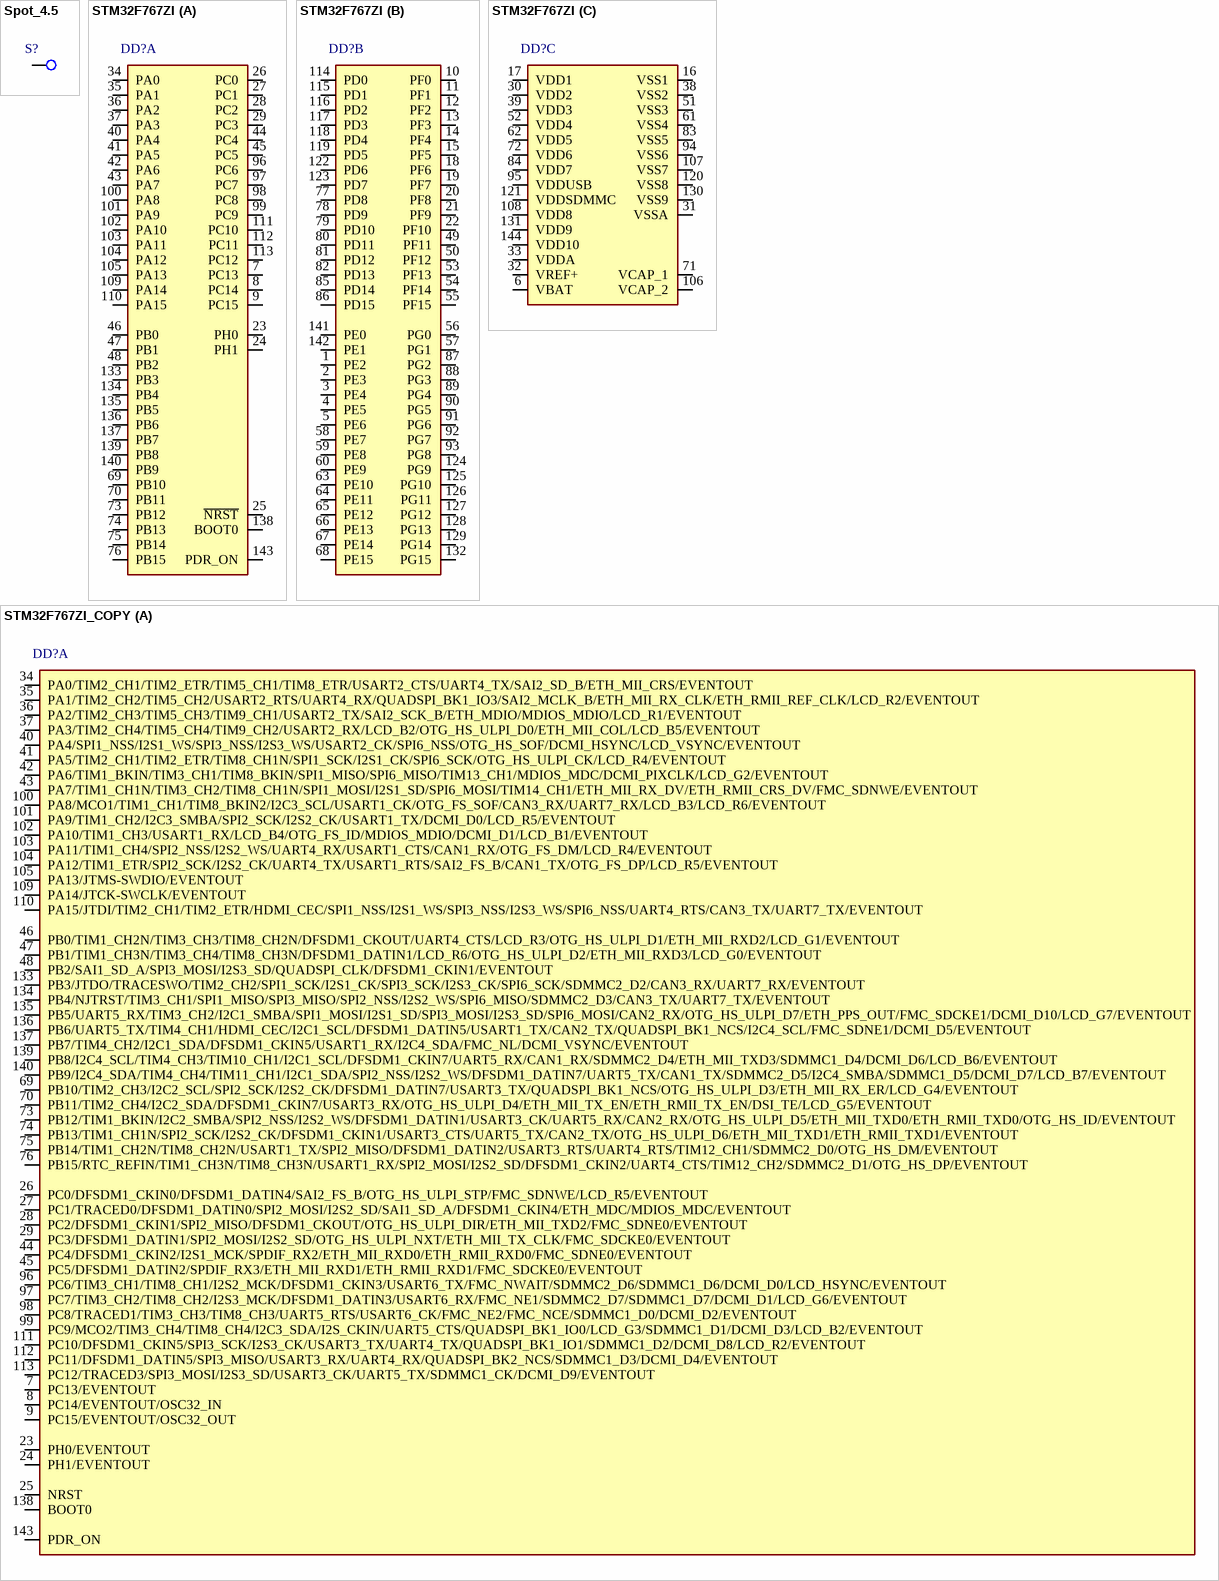
[diagram p6: symbols Spot_4.5 to STM32F767ZI_COPY]

## Spot_4.5
designator S?, comment SPOT 4.5  (value not drawn)
Spot_4.5; Manufacturer: -; PartNumber: Spot
footprint Spot_4.5 (Spot 4.5mm)
pins: 1

## STM32F767ZI
designator DD?
32-bit ARM Cortex-M7 MCU+FPU; Manufactorer: ST; PartNumber: STM32F767ZI
footprint SOT486-1_V (Thin QFP, 144-Leads, Body 20x20mm, Pitch 0.5mm, NXP Recommended)
part A pins: 7 PC13, 8 PC14, 9 PC15, 23 PH0, 24 PH1, 25 ~{NRST}, 26 PC0, 27 PC1, 28 PC2, 29 PC3, 34 PA0, 35 PA1, 36 PA2, 37 PA3, 40 PA4, 41 PA5, 42 PA6, 43 PA7, 44 PC4, 45 PC5, 46 PB0, 47 PB1, 48 PB2, 69 PB10, 70 PB11, 73 PB12, 74 PB13, 75 PB14, 76 PB15, 96 PC6, 97 PC7, 98 PC8, 99 PC9, 100 PA8, 101 PA9, 102 PA10, 103 PA11, 104 PA12, 105 PA13, 109 PA14, 110 PA15, 111 PC10, 112 PC11, 113 PC12, 133 PB3, 134 PB4, 135 PB5, 136 PB6, 137 PB7, 138 BOOT0, 139 PB8, 140 PB9, 143 PDR_ON
part B pins: 1 PE2, 2 PE3, 3 PE4, 4 PE5, 5 PE6, 10 PF0, 11 PF1, 12 PF2, 13 PF3, 14 PF4, 15 PF5, 18 PF6, 19 PF7, 20 PF8, 21 PF9, 22 PF10, 49 PF11, 50 PF12, 53 PF13, 54 PF14, 55 PF15, 56 PG0, 57 PG1, 58 PE7, 59 PE8, 60 PE9, 63 PE10, 64 PE11, 65 PE12, 66 PE13, 67 PE14, 68 PE15, 77 PD8, 78 PD9, 79 PD10, 80 PD11, 81 PD12, 82 PD13, 85 PD14, 86 PD15, 87 PG2, 88 PG3, 89 PG4, 90 PG5, 91 PG6, 92 PG7, 93 PG8, 114 PD0, 115 PD1, 116 PD2, 117 PD3, 118 PD4, 119 PD5, 122 PD6, 123 PD7, 124 PG9, 125 PG10, 126 PG11, 127 PG12, 128 PG13, 129 PG14, 132 PG15, 141 PE0, 142 PE1
part C pins: 6 VBAT, 16 VSS1, 17 VDD1, 30 VDD2, 31 VSSA, 32 VREF+, 33 VDDA, 38 VSS2, 39 VDD3, 51 VSS3, 52 VDD4, 61 VSS4, 62 VDD5, 71 VCAP_1, 72 VDD6, 83 VSS5, 84 VDD7, 94 VSS6, 95 VDDUSB, 106 VCAP_2, 107 VSS7, 108 VDD8, 120 VSS8, 121 VDDSDMMC, 130 VSS9, 131 VDD9, 144 VDD10

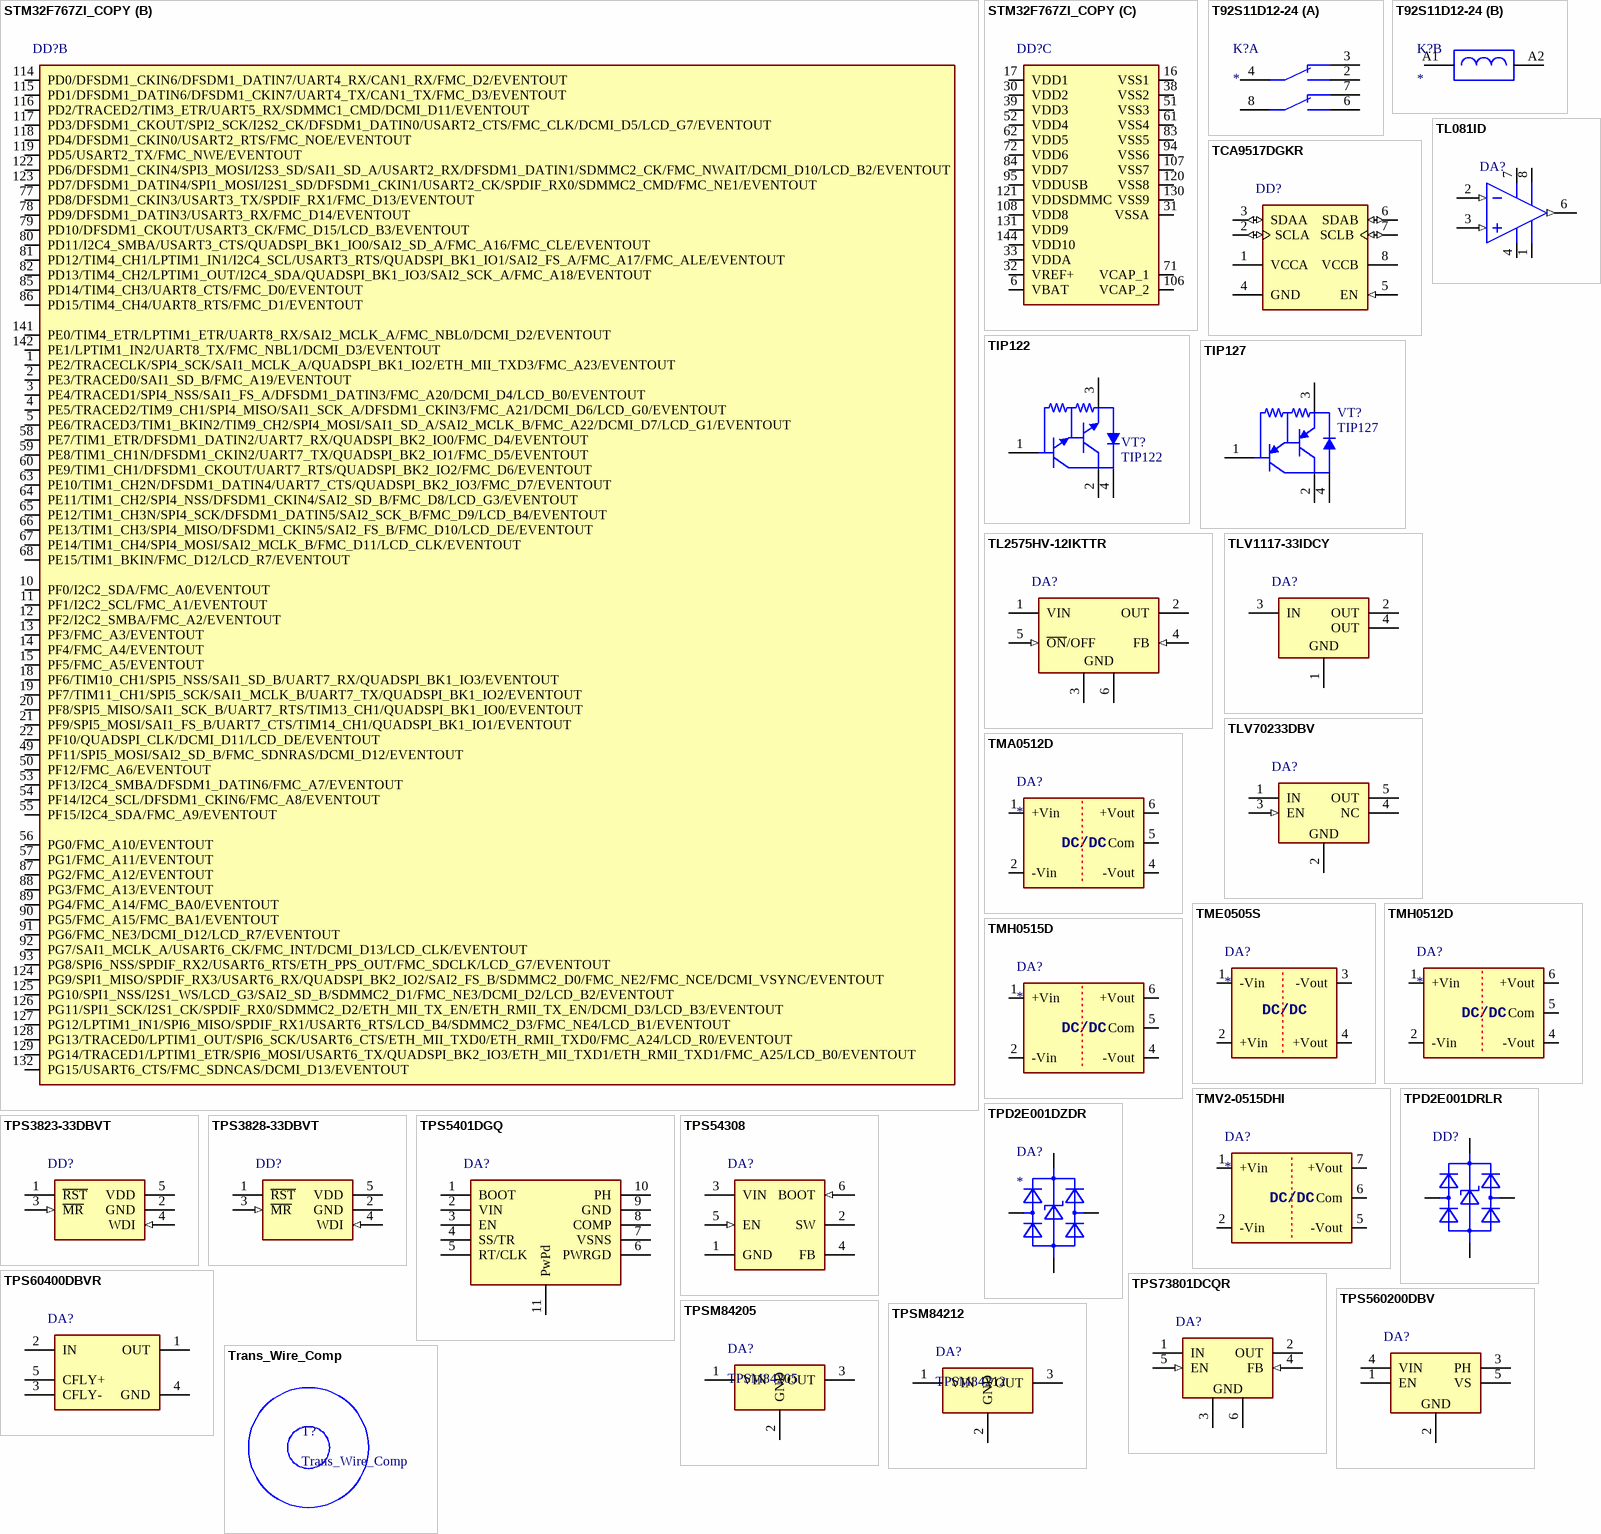
[diagram p7: symbols STM32F767ZI_COPY to Trans_Wire_Comp]

## STM32F767ZI_COPY
designator DD?
32-bit ARM Cortex-M7 MCU+FPU; Manufactorer: ST; PartNumber: STM32F767ZI
footprint SOT486-1_V (Thin QFP, 144-Leads, Body 20x20mm, Pitch 0.5mm, NXP Recommended)
part A pins: 7 PC13/EVENTOUT, 8 PC14/EVENTOUT/OSC32_IN, 9 PC15/EVENTOUT/OSC32_OUT, 23 PH0/EVENTOUT, 24 PH1/EVENTOUT, 25 NRST, 26 PC0/DFSDM1_CKIN0/DFSDM1_DATIN4/SAI2_FS_B/OTG_HS_ULPI_STP/FMC_SDNWE/LCD_R5/EVENTOUT, 27 PC1/TRACED0/DFSDM1_DATIN0/SPI2_MOSI/I2S2_SD/SAI1_SD_A/DFSDM1_CKIN4/ETH_MDC/MDIOS_MDC/EVENTOUT, 28 PC2/DFSDM1_CKIN1/SPI2_MISO/DFSDM1_CKOUT/OTG_HS_ULPI_DIR/ETH_MII_TXD2/FMC_SDNE0/EVENTOUT, 29 PC3/DFSDM1_DATIN1/SPI2_MOSI/I2S2_SD/OTG_HS_ULPI_NXT/ETH_MII_TX_CLK/FMC_SDCKE0/EVENTOUT, 34 PA0/TIM2_CH1/TIM2_ETR/TIM5_CH1/TIM8_ETR/USART2_CTS/UART4_TX/SAI2_SD_B/ETH_MII_CRS/EVENTOUT, 35 PA1/TIM2_CH2/TIM5_CH2/USART2_RTS/UART4_RX/QUADSPI_BK1_IO3/SAI2_MCLK_B/ETH_MII_RX_CLK/ETH_RMII_REF_CLK/LCD_R2/EVENTOUT, 36 PA2/TIM2_CH3/TIM5_CH3/TIM9_CH1/USART2_TX/SAI2_SCK_B/ETH_MDIO/MDIOS_MDIO/LCD_R1/EVENTOUT, 37 PA3/TIM2_CH4/TIM5_CH4/TIM9_CH2/USART2_RX/LCD_B2/OTG_HS_ULPI_D0/ETH_MII_COL/LCD_B5/EVENTOUT, 40 PA4/SPI1_NSS/I2S1_WS/SPI3_NSS/I2S3_WS/USART2_CK/SPI6_NSS/OTG_HS_SOF/DCMI_HSYNC/LCD_VSYNC/EVENTOUT, 41 PA5/TIM2_CH1/TIM2_ETR/TIM8_CH1N/SPI1_SCK/I2S1_CK/SPI6_SCK/OTG_HS_ULPI_CK/LCD_R4/EVENTOUT, 42 PA6/TIM1_BKIN/TIM3_CH1/TIM8_BKIN/SPI1_MISO/SPI6_MISO/TIM13_CH1/MDIOS_MDC/DCMI_PIXCLK/LCD_G2/EVENTOUT, 43 PA7/TIM1_CH1N/TIM3_CH2/TIM8_CH1N/SPI1_MOSI/I2S1_SD/SPI6_MOSI/TIM14_CH1/ETH_MII_RX_DV/ETH_RMII_CRS_DV/FMC_SDNWE/EVENTOUT, 44 PC4/DFSDM1_CKIN2/I2S1_MCK/SPDIF_RX2/ETH_MII_RXD0/ETH_RMII_RXD0/FMC_SDNE0/EVENTOUT, 45 PC5/DFSDM1_DATIN2/SPDIF_RX3/ETH_MII_RXD1/ETH_RMII_RXD1/FMC_SDCKE0/EVENTOUT, 46 PB0/TIM1_CH2N/TIM3_CH3/TIM8_CH2N/DFSDM1_CKOUT/UART4_CTS/LCD_R3/OTG_HS_ULPI_D1/ETH_MII_RXD2/LCD_G1/EVENTOUT, 47 PB1/TIM1_CH3N/TIM3_CH4/TIM8_CH3N/DFSDM1_DATIN1/LCD_R6/OTG_HS_ULPI_D2/ETH_MII_RXD3/LCD_G0/EVENTOUT, 48 PB2/SAI1_SD_A/SPI3_MOSI/I2S3_SD/QUADSPI_CLK/DFSDM1_CKIN1/EVENTOUT, 69 PB10/TIM2_CH3/I2C2_SCL/SPI2_SCK/I2S2_CK/DFSDM1_DATIN7/USART3_TX/QUADSPI_BK1_NCS/OTG_HS_ULPI_D3/ETH_MII_RX_ER/LCD_G4/EVENTOUT, 70 PB11/TIM2_CH4/I2C2_SDA/DFSDM1_CKIN7/USART3_RX/OTG_HS_ULPI_D4/ETH_MII_TX_EN/ETH_RMII_TX_EN/DSI_TE/LCD_G5/EVENTOUT, 73 PB12/TIM1_BKIN/I2C2_SMBA/SPI2_NSS/I2S2_WS/DFSDM1_DATIN1/USART3_CK/UART5_RX/CAN2_RX/OTG_HS_ULPI_D5/ETH_MII_TXD0/ETH_RMII_TXD0/OTG_HS_ID/EVENTOUT, 74 PB13/TIM1_CH1N/SPI2_SCK/I2S2_CK/DFSDM1_CKIN1/USART3_CTS/UART5_TX/CAN2_TX/OTG_HS_ULPI_D6/ETH_MII_TXD1/ETH_RMII_TXD1/EVENTOUT, 75 PB14/TIM1_CH2N/TIM8_CH2N/USART1_TX/SPI2_MISO/DFSDM1_DATIN2/USART3_RTS/UART4_RTS/TIM12_CH1/SDMMC2_D0/OTG_HS_DM/EVENTOUT, 76 PB15/RTC_REFIN/TIM1_CH3N/TIM8_CH3N/USART1_RX/SPI2_MOSI/I2S2_SD/DFSDM1_CKIN2/UART4_CTS/TIM12_CH2/SDMMC2_D1/OTG_HS_DP/EVENTOUT, 96 PC6/TIM3_CH1/TIM8_CH1/I2S2_MCK/DFSDM1_CKIN3/USART6_TX/FMC_NWAIT/SDMMC2_D6/SDMMC1_D6/DCMI_D0/LCD_HSYNC/EVENTOUT, 97 PC7/TIM3_CH2/TIM8_CH2/I2S3_MCK/DFSDM1_DATIN3/USART6_RX/FMC_NE1/SDMMC2_D7/SDMMC1_D7/DCMI_D1/LCD_G6/EVENTOUT, 98 PC8/TRACED1/TIM3_CH3/TIM8_CH3/UART5_RTS/USART6_CK/FMC_NE2/FMC_NCE/SDMMC1_D0/DCMI_D2/EVENTOUT, 99 PC9/MCO2/TIM3_CH4/TIM8_CH4/I2C3_SDA/I2S_CKIN/UART5_CTS/QUADSPI_BK1_IO0/LCD_G3/SDMMC1_D1/DCMI_D3/LCD_B2/EVENTOUT, 100 PA8/MCO1/TIM1_CH1/TIM8_BKIN2/I2C3_SCL/USART1_CK/OTG_FS_SOF/CAN3_RX/UART7_RX/LCD_B3/LCD_R6/EVENTOUT, 101 PA9/TIM1_CH2/I2C3_SMBA/SPI2_SCK/I2S2_CK/USART1_TX/DCMI_D0/LCD_R5/EVENTOUT, 102 PA10/TIM1_CH3/USART1_RX/LCD_B4/OTG_FS_ID/MDIOS_MDIO/DCMI_D1/LCD_B1/EVENTOUT, 103 PA11/TIM1_CH4/SPI2_NSS/I2S2_WS/UART4_RX/USART1_CTS/CAN1_RX/OTG_FS_DM/LCD_R4/EVENTOUT, 104 PA12/TIM1_ETR/SPI2_SCK/I2S2_CK/UART4_TX/USART1_RTS/SAI2_FS_B/CAN1_TX/OTG_FS_DP/LCD_R5/EVENTOUT, 105 PA13/JTMS-SWDIO/EVENTOUT, 109 PA14/JTCK-SWCLK/EVENTOUT, 110 PA15/JTDI/TIM2_CH1/TIM2_ETR/HDMI_CEC/SPI1_NSS/I2S1_WS/SPI3_NSS/I2S3_WS/SPI6_NSS/UART4_RTS/CAN3_TX/UART7_TX/EVENTOUT, 111 PC10/DFSDM1_CKIN5/SPI3_SCK/I2S3_CK/USART3_TX/UART4_TX/QUADSPI_BK1_IO1/SDMMC1_D2/DCMI_D8/LCD_R2/EVENTOUT, 112 PC11/DFSDM1_DATIN5/SPI3_MISO/USART3_RX/UART4_RX/QUADSPI_BK2_NCS/SDMMC1_D3/DCMI_D4/EVENTOUT, 113 PC12/TRACED3/SPI3_MOSI/I2S3_SD/USART3_CK/UART5_TX/SDMMC1_CK/DCMI_D9/EVENTOUT, 133 PB3/JTDO/TRACESWO/TIM2_CH2/SPI1_SCK/I2S1_CK/SPI3_SCK/I2S3_CK/SPI6_SCK/SDMMC2_D2/CAN3_RX/UART7_RX/EVENTOUT, 134 PB4/NJTRST/TIM3_CH1/SPI1_MISO/SPI3_MISO/SPI2_NSS/I2S2_WS/SPI6_MISO/SDMMC2_D3/CAN3_TX/UART7_TX/EVENTOUT, 135 PB5/UART5_RX/TIM3_CH2/I2C1_SMBA/SPI1_MOSI/I2S1_SD/SPI3_MOSI/I2S3_SD/SPI6_MOSI/CAN2_RX/OTG_HS_ULPI_D7/ETH_PPS_OUT/FMC_SDCKE1/DCMI_D10/LCD_G7/EVENTOUT, 136 PB6/UART5_TX/TIM4_CH1/HDMI_CEC/I2C1_SCL/DFSDM1_DATIN5/USART1_TX/CAN2_TX/QUADSPI_BK1_NCS/I2C4_SCL/FMC_SDNE1/DCMI_D5/EVENTOUT, 137 PB7/TIM4_CH2/I2C1_SDA/DFSDM1_CKIN5/USART1_RX/I2C4_SDA/FMC_NL/DCMI_VSYNC/EVENTOUT, 138 BOOT0, 139 PB8/I2C4_SCL/TIM4_CH3/TIM10_CH1/I2C1_SCL/DFSDM1_CKIN7/UART5_RX/CAN1_RX/SDMMC2_D4/ETH_MII_TXD3/SDMMC1_D4/DCMI_D6/LCD_B6/EVENTOUT, 140 PB9/I2C4_SDA/TIM4_CH4/TIM11_CH1/I2C1_SDA/SPI2_NSS/I2S2_WS/DFSDM1_DATIN7/UART5_TX/CAN1_TX/SDMMC2_D5/I2C4_SMBA/SDMMC1_D5/DCMI_D7/LCD_B7/EVENTOUT, 143 PDR_ON
part B pins: 1 PE2/TRACECLK/SPI4_SCK/SAI1_MCLK_A/QUADSPI_BK1_IO2/ETH_MII_TXD3/FMC_A23/EVENTOUT, 2 PE3/TRACED0/SAI1_SD_B/FMC_A19/EVENTOUT, 3 PE4/TRACED1/SPI4_NSS/SAI1_FS_A/DFSDM1_DATIN3/FMC_A20/DCMI_D4/LCD_B0/EVENTOUT, 4 PE5/TRACED2/TIM9_CH1/SPI4_MISO/SAI1_SCK_A/DFSDM1_CKIN3/FMC_A21/DCMI_D6/LCD_G0/EVENTOUT, 5 PE6/TRACED3/TIM1_BKIN2/TIM9_CH2/SPI4_MOSI/SAI1_SD_A/SAI2_MCLK_B/FMC_A22/DCMI_D7/LCD_G1/EVENTOUT, 10 PF0/I2C2_SDA/FMC_A0/EVENTOUT, 11 PF1/I2C2_SCL/FMC_A1/EVENTOUT, 12 PF2/I2C2_SMBA/FMC_A2/EVENTOUT, 13 PF3/FMC_A3/EVENTOUT , 14 PF4/FMC_A4/EVENTOUT, 15 PF5/FMC_A5/EVENTOUT, 18 PF6/TIM10_CH1/SPI5_NSS/SAI1_SD_B/UART7_RX/QUADSPI_BK1_IO3/EVENTOUT, 19 PF7/TIM11_CH1/SPI5_SCK/SAI1_MCLK_B/UART7_TX/QUADSPI_BK1_IO2/EVENTOUT, 20 PF8/SPI5_MISO/SAI1_SCK_B/UART7_RTS/TIM13_CH1/QUADSPI_BK1_IO0/EVENTOUT, 21 PF9/SPI5_MOSI/SAI1_FS_B/UART7_CTS/TIM14_CH1/QUADSPI_BK1_IO1/EVENTOUT, 22 PF10/QUADSPI_CLK/DCMI_D11/LCD_DE/EVENTOUT, 49 PF11/SPI5_MOSI/SAI2_SD_B/FMC_SDNRAS/DCMI_D12/EVENTOUT, 50 PF12/FMC_A6/EVENTOUT, 53 PF13/I2C4_SMBA/DFSDM1_DATIN6/FMC_A7/EVENTOUT, 54 PF14/I2C4_SCL/DFSDM1_CKIN6/FMC_A8/EVENTOUT, 55 PF15/I2C4_SDA/FMC_A9/EVENTOUT, 56 PG0/FMC_A10/EVENTOUT, 57 PG1/FMC_A11/EVENTOUT, 58 PE7/TIM1_ETR/DFSDM1_DATIN2/UART7_RX/QUADSPI_BK2_IO0/FMC_D4/EVENTOUT, 59 PE8/TIM1_CH1N/DFSDM1_CKIN2/UART7_TX/QUADSPI_BK2_IO1/FMC_D5/EVENTOUT, 60 PE9/TIM1_CH1/DFSDM1_CKOUT/UART7_RTS/QUADSPI_BK2_IO2/FMC_D6/EVENTOUT, 63 PE10/TIM1_CH2N/DFSDM1_DATIN4/UART7_CTS/QUADSPI_BK2_IO3/FMC_D7/EVENTOUT, 64 PE11/TIM1_CH2/SPI4_NSS/DFSDM1_CKIN4/SAI2_SD_B/FMC_D8/LCD_G3/EVENTOUT, 65 PE12/TIM1_CH3N/SPI4_SCK/DFSDM1_DATIN5/SAI2_SCK_B/FMC_D9/LCD_B4/EVENTOUT, 66 PE13/TIM1_CH3/SPI4_MISO/DFSDM1_CKIN5/SAI2_FS_B/FMC_D10/LCD_DE/EVENTOUT, 67 PE14/TIM1_CH4/SPI4_MOSI/SAI2_MCLK_B/FMC_D11/LCD_CLK/EVENTOUT, 68 PE15/TIM1_BKIN/FMC_D12/LCD_R7/EVENTOUT, 77 PD8/DFSDM1_CKIN3/USART3_TX/SPDIF_RX1/FMC_D13/EVENTOUT, 78 PD9/DFSDM1_DATIN3/USART3_RX/FMC_D14/EVENTOUT, 79 PD10/DFSDM1_CKOUT/USART3_CK/FMC_D15/LCD_B3/EVENTOUT, 80 PD11/I2C4_SMBA/USART3_CTS/QUADSPI_BK1_IO0/SAI2_SD_A/FMC_A16/FMC_CLE/EVENTOUT, 81 PD12/TIM4_CH1/LPTIM1_IN1/I2C4_SCL/USART3_RTS/QUADSPI_BK1_IO1/SAI2_FS_A/FMC_A17/FMC_ALE/EVENTOUT, 82 PD13/TIM4_CH2/LPTIM1_OUT/I2C4_SDA/QUADSPI_BK1_IO3/SAI2_SCK_A/FMC_A18/EVENTOUT, 85 PD14/TIM4_CH3/UART8_CTS/FMC_D0/EVENTOUT, 86 PD15/TIM4_CH4/UART8_RTS/FMC_D1/EVENTOUT, 87 PG2/FMC_A12/EVENTOUT, 88 PG3/FMC_A13/EVENTOUT, 89 PG4/FMC_A14/FMC_BA0/EVENTOUT, 90 PG5/FMC_A15/FMC_BA1/EVENTOUT, 91 PG6/FMC_NE3/DCMI_D12/LCD_R7/EVENTOUT, 92 PG7/SAI1_MCLK_A/USART6_CK/FMC_INT/DCMI_D13/LCD_CLK/EVENTOUT, 93 PG8/SPI6_NSS/SPDIF_RX2/USART6_RTS/ETH_PPS_OUT/FMC_SDCLK/LCD_G7/EVENTOUT, 114 PD0/DFSDM1_CKIN6/DFSDM1_DATIN7/UART4_RX/CAN1_RX/FMC_D2/EVENTOUT, 115 PD1/DFSDM1_DATIN6/DFSDM1_CKIN7/UART4_TX/CAN1_TX/FMC_D3/EVENTOUT, 116 PD2/TRACED2/TIM3_ETR/UART5_RX/SDMMC1_CMD/DCMI_D11/EVENTOUT, 117 PD3/DFSDM1_CKOUT/SPI2_SCK/I2S2_CK/DFSDM1_DATIN0/USART2_CTS/FMC_CLK/DCMI_D5/LCD_G7/EVENTOUT, 118 PD4/DFSDM1_CKIN0/USART2_RTS/FMC_NOE/EVENTOUT, 119 PD5/USART2_TX/FMC_NWE/EVENTOUT, 122 PD6/DFSDM1_CKIN4/SPI3_MOSI/I2S3_SD/SAI1_SD_A/USART2_RX/DFSDM1_DATIN1/SDMMC2_CK/FMC_NWAIT/DCMI_D10/LCD_B2/EVENTOUT, 123 PD7/DFSDM1_DATIN4/SPI1_MOSI/I2S1_SD/DFSDM1_CKIN1/USART2_CK/SPDIF_RX0/SDMMC2_CMD/FMC_NE1/EVENTOUT, 124 PG9/SPI1_MISO/SPDIF_RX3/USART6_RX/QUADSPI_BK2_IO2/SAI2_FS_B/SDMMC2_D0/FMC_NE2/FMC_NCE/DCMI_VSYNC/EVENTOUT, 125 PG10/SPI1_NSS/I2S1_WS/LCD_G3/SAI2_SD_B/SDMMC2_D1/FMC_NE3/DCMI_D2/LCD_B2/EVENTOUT, 126 PG11/SPI1_SCK/I2S1_CK/SPDIF_RX0/SDMMC2_D2/ETH_MII_TX_EN/ETH_RMII_TX_EN/DCMI_D3/LCD_B3/EVENTOUT, 127 PG12/LPTIM1_IN1/SPI6_MISO/SPDIF_RX1/USART6_RTS/LCD_B4/SDMMC2_D3/FMC_NE4/LCD_B1/EVENTOUT, 128 PG13/TRACED0/LPTIM1_OUT/SPI6_SCK/USART6_CTS/ETH_MII_TXD0/ETH_RMII_TXD0/FMC_A24/LCD_R0/EVENTOUT, 129 PG14/TRACED1/LPTIM1_ETR/SPI6_MOSI/USART6_TX/QUADSPI_BK2_IO3/ETH_MII_TXD1/ETH_RMII_TXD1/FMC_A25/LCD_B0/EVENTOUT, 132 PG15/USART6_CTS/FMC_SDNCAS/DCMI_D13/EVENTOUT, 141 PE0/TIM4_ETR/LPTIM1_ETR/UART8_RX/SAI2_MCLK_A/FMC_NBL0/DCMI_D2/EVENTOUT, 142 PE1/LPTIM1_IN2/UART8_TX/FMC_NBL1/DCMI_D3/EVENTOUT
part C pins: 6 VBAT, 16 VSS1, 17 VDD1, 30 VDD2, 31 VSSA, 32 VREF+, 33 VDDA, 38 VSS2, 39 VDD3, 51 VSS3, 52 VDD4, 61 VSS4, 62 VDD5, 71 VCAP_1, 72 VDD6, 83 VSS5, 84 VDD7, 94 VSS6, 95 VDDUSB, 106 VCAP_2, 107 VSS7, 108 VDD8, 120 VSS8, 121 VDDSDMMC, 130 VSS9, 131 VDD9, 144 VDD10

## T92S11D12-24
designator K?
600VAC 40A DPDT 24VDC; Manufacturer: TE connectivity; PurtNumber: T92S11D12-24
part A pins: 2, 3, 4, 6, 7, 8
part B pins: A1, A2

## TCA9517DGKR
designator DD?
Level-Shifting I 2C Bus Repeater; PartNumber: TCA9517DGKR; Manufacturer: Texas Instruments
footprint DGK8_M (TSOP, 8-Leads, Body 3x3mm, Pitch 0.65mm, IPC Low Density)
pins: 1 VCCA (power) "A-side supplyVoltage (0.9V to VCCB - 1V)", 2 SCLA (io) "Serial clock bus, A side.", 3 SDAA (io) "Serial data bus, A side.", 4 GND (power) "Supply ground", 5 EN (in) "Active-high repeater enable input", 6 SDAB (io) "Serial data bus, B side. Connect to VCCB through a pullup resistor.", 7 SCLB (io) "Serial clock bus, B side. Connect to VCCB through a pullup resistor.", 8 VCCB (power) "B-side and device supplyVoltage (2.7V to 5.5V)"

## TIP122
designator VT?
NPN Darlington Bipolar Transistor; Manufacturer: ST; PackageReference: TO-220; PartNumber: TIP122
footprint TO-220 (TO-220, 4-pin)
simulation model NPN3 (Spice Subcircuit)
signal-integrity model NPN
pins: 1, 2, 3, 4

## TIP127
designator VT?
PNP Darlington Bipolar Transistor; Manufacturer: ST; PartNumber: TIP127; PackageReference: TO-220
footprint TO-220 (TO-220, 4-pin)
simulation model PNP3 (Spice Subcircuit)
signal-integrity model PNP
pins: 1, 2, 3, 4

## TL081ID
designator DA?
FET Operational Amplifier, -40 to 85 degC, 8-pin SOIC (D8); Manufacturer: Texas Instruments; PartNumber: TL081ID
footprint TI-D8_M (SOIC, 8-Leads, Body 4.9x3.9mm, Pitch 1.27mm, IPC Low Density)
pins: 1 V-, 2 IN - (in), 3 IN + (in), 4 V- (power), 6 OUT (out), 7 V+ (power), 8 Flag

## TL2575HV-12IKTTR
designator DA?
Buck Step Down Regulator with 4.75 to 60 V Input and 12 V Output, -40 to 125 degC, 5-Pin DDPAK/TO-263 (KTT), Green (RoHS & no Sb/Br); Manufacturer: Texas Instruments; PartNumber: TL2575HV-12IKTTR; Preset Vout(V): 12; Rating: Catalog; Vin(Max)(V): 60; Vin(Min)(V): 4.75; PackageVersion: revF, Jul-2011; PackageReference: KTT5; PackageDescription: 6-Pin Plastic Fange-Mount Package 1.7 mm Pitch, 15.2 mm Lead Span; Topology: Buck; Vout(Max)(V): 12; Vout(Min)(V): 12; Mounting Technology: Surface Mount
footprint KTT5_M (D2-PAK, 6-Leads, Body 8.9x10.2mm, Pitch 1.7mm, Lead Span 15.2mm, IPC Low Density)
pins: 1 VIN (power), 2 OUT (power), 3 GND (power), 4 FB (in), 5 ~{ON}/OFF (in), 6 GND (power)

## TLV1117-33IDCY
designator DA?
Low-Dropout Voltage Regulator, 3.3V 0.8A Output, 4-pin SOT-223 (DCY); Manufacturer: Texas Instruments; PartNumber: TLV1117LV33DCYR
footprint TI-DCY4_M (SOT223, 4-Leads, Body 6.5x3.5mm, Pitch 2.3mm, IPC Low Density)
pins: 1 GND (power) "Ground pin", 2 OUT (power) "Regulated output voltage pin.", 3 IN (power) "Input pin.", 4 OUT (power) "Regulated output voltage pin."

## TLV70233DBV
designator DA?
Single Output LDO, 300 mA, Fixed 3.3 V Output, 2 to 5.5 V Input; Manufacturer: Texas Instruments; PartNumber: TLV70233DBV
footprint TI-DBV5_M (SOT23, 5-Leads, Body 2.9x1.6mm, Pitch 0.95mm, IPC Low Density)
pins: 1 IN (power) "Input supply voltage", 2 GND (power) "Ground", 3 EN (in) "Enable input", 4 NC "No connected", 5 OUT (power) "Regulated output voltage"

## TMA0512D
designator DA?
DC/DC
footprint SIP6 12456
pins: 1 +Vin, 2 -Vin, 4 -Vout, 5 Com, 6 +Vout

## TME0505S
designator DA?
DC/DC
footprint SIP4
pins: 1 -Vin, 2 +Vin, 3 -Vout, 4 +Vout

## TMH0512D
designator DA?
DC/DC; Manufacturer: Traco Power; PartNumber: TMH0512D
footprint SIL7_12456 (SIL-7 (big SIP-7))
pins: 1 +Vin, 2 -Vin, 4 -Vout, 5 Com, 6 +Vout

## TMH0515D
designator DA?
DC/DC 2W In5VDC out+-15VDC I/O-Isolation 1kVDC; Manufacturer: Traco Power; PartNumber: TMH0515D
footprint SIL7_12456 (SIL-7 (big SIP-7))
pins: 1 +Vin, 2 -Vin, 4 -Vout, 5 Com, 6 +Vout
text: DC/DC

## TMV2-0515DHI
designator DA?
DC/DC 2W In5VDC out+-15VDC I/O-Isolation 5.2kVDC; Manufacturer: Recom; TMV2-0515DHI: PartNumber
footprint SIP7 12567 7.5 (DC/DC SIP7 12567 Big 19.5x7.5x10.2)
pins: 1 +Vin, 2 -Vin, 5 -Vout, 6 Com, 7 +Vout
text: DC/DC

## TPD2E001DRLR
designator DD?
Low-Capacitance + / - 15 kV ESD-Protection Array for High-Speed Data Interfaces, 2 Channels, -40 to +85 degC, 5-pin SOT (DRL), Green (RoHS & no Sb/Br); Manufacturer: Texas Instruments; PartNumber: TPD2E001DRLR
footprint DRL5_M (SOTFL, 5-Flat Leads, Body 1.2x1.6x0.6mm, Pitch 0.5mm, IPC Low Density)
pins: 1 VCC (power), 3 IO1, 4 GND (power), 5 IO2

## TPD2E001DZDR
designator DA?
2-Channel ESD-Protection for High-Speed Data Interfaces; PartNumber: TPD2E001DZDR; Manufacturer: Texas Instruments
footprint DZD
pins: 1 (power), 2, 3, 4 (power)

## TPS3823-33DBVT
designator DD?
Supervisor with Watchdog, Push-Pull output; Manufacturer: Texas Instruments; PartNumber: TPS3823-33DBVT
footprint TI-DBV5_N (SOT23, 5-Leads, Body 2.9x1.6mm, Pitch 0.95mm, IPC Medium Density)
pins: 1 ~{RST} (oc) "Open-drain reset output", 2 GND (power) "Ground", 3 ~{MR} (in) "Programmable watchdog delay input", 4 WDI (in) "Watchdog timer input. This input must be driven at all times and not left floating.", 5 VDD (power) "Selectable watchdog window ratio input. This input must be tied to VDD or GND and not left floating."

## TPS3828-33DBVT
designator DD?
Supervisor with Watchdog, Open Drain output; Manufacturer: Texas Instruments; PartNumber: TPS3828-33DBVT
footprint TI-DBV5_N (SOT23, 5-Leads, Body 2.9x1.6mm, Pitch 0.95mm, IPC Medium Density)
pins: 1 ~{RST} (oc) "Open-drain reset output", 2 GND (power) "Ground", 3 ~{MR} (in) "Programmable watchdog delay input", 4 WDI (in) "Watchdog timer input. This input must be driven at all times and not left floating.", 5 VDD (power) "Selectable watchdog window ratio input. This input must be tied to VDD or GND and not left floating."

## TPS5401DGQ
designator DA?
500-mA Step-Down Regulator, 3.5-V to 42-V Input, MSOP10+TP; Manufacturer: Texas Instruments; PartNumber: TPS5401DGQ
footprint MSOP10_TP (S-PDSO-G10)
pins: 1 BOOT (power) "Input supply voltage", 2 VIN "Enable input", 3 EN (power) "Regulated output voltage", 4 SS/TR (power) "Regulated output voltage", 5 RT/CLK "No connected", 6 PWRGD "No connected", 7 VSNS "No connected", 8 COMP "No connected", 9 GND "No connected", 10 PH "No connected", 11 PwPd "No connected"

## TPS54308
designator DA?
Step Down Converter, 28V Input, Var Output, 3A, -40 to 125 degC, 6-Pin SOT-23; Manufacturer: Texas Instruments; PartNumber: TPS54308
footprint SOT-23-6 (SOT23, 6-Leads, Body 2,75x1,75mm, Pitch 0,95mm)
pins: 1 GND (power), 2 SW (power), 3 VIN (power), 4 FB (power), 5 EN (in), 6 BOOT (in)

## TPS60400DBVR
designator DA?
-1.8 to -5.25 V, Inverting Charge Pump, 60 mA, 1.8 to 5.25 V Input with 2-Cell Alkaline / Nixx Input, -40 to 85 degC, 5-pin SOT23 (DBV5), Green (RoHS & no Sb/Br); Manufacturer: Texas Instruments; PartNumber: TPS60400DBVR; 2-Cell Alkaline/Nixx Input: TRUE; Efficiency(Typ)(%): 99; Iout(Max)(A): 0.06; Iq(Typ)(mA): 0.125; Switching Frequency(Max)(kHz): 450; Topology: Inverting Buck/Boost; Vin(Max)(V): 5.25; Vin(Min)(V): 1.8; Vout(Min)(V): -1.6; DatasheetVersion: SLVS324A; PackageVersion: 4073253-4/K; PackageReference: DBV5; PackageDescription: 5-Pin Plastic Small Outline, Body 1.60 Г— 2.90 mm, Pitch 0.95 mm; Eco-Plan: Green (RoHS & no Sb/Br); Vout(Max)(V): -5.25; Mounting Technology: Surface Mount; Code_JEDEC: MO-178; ComponentLink1Description: Manufacturer URL; ComponentLink1URL: http://www.ti.com/; ComponentLink2Description: Datasheet; ComponentLink2URL: http://www.ti.com/general/docs/lit/getliterature.tsp?genericPartNumber=TPS60400&fileType=pdf; ComponentLink3Description: Package Specification; ComponentLink3URL: http://www.ti.com/litv/pdf/mpds018i
footprint TI-DBV5_N (SOT23, 5-Leads, Body 2.9x1.6mm, Pitch 0.95mm, IPC Medium Density)
pins: 1 OUT (power) "Power output with VO = -VI Bypass OUT to GND with the output filter capacitor CO.", 2 IN (power) "Supply input. Connect to an input supply in the 1.6-V to 5.5-V range. Bypass IN to GND with a capacitor that has the same value as the flying capacitor.", 3 CFLY- "Negative terminal of the flying capacitor C(fly)", 4 GND (power) "Ground", 5 CFLY+ "Positive terminal of the flying capacitor C(fly)"

## TPS73801DCQR
designator DA?
1A Low Noise, Low-Dropout Linear Regulator; Manufacturer: Texas Instruments; PartNumber: TPS73801DCQR
footprint TI-DCQ6_M (SOT223, 6-Leads, Body 6.5x3.5mm, Pitch 1.27mm, IPC Low Density)
pins: 1 IN (power) "Input. Power is supplied to the device through the IN pin. A bypass capacitor is required on this pin if the device is more than six inches away from the main input filter capacitor. In general, the output impedance of a (See Datasheet)", 2 OUT (power) "Output. The output supplies power to the load. A minimum output capacitor (ceramic) of 10 uF is required to prevent oscillations. Larger output capacitors are required for applications with large transient loads to limit (See Datasheet)", 3 GND (power) "Ground", 4 FB (in) "Feedback. This is the input to the error amplifier. This pin is internally clamped to +/-7 V. It has a bias current of 3 uA that flows into the pin. The FB pin voltage is 1.21 V referenced to ground, and the output voltage (See Datasheet)", 5 EN (in) "Enable. The EN pin is used to put the TPS73801 regulators into a low-power shutdown state. The output is off when the EN pin is pulled low. The EN pin can be driven either by 5-V logic or open-collector gate, normally (See Datasheet)", 6 GND (power) "Ground"

## TPS560200DBV
designator DA?
500-mA Synchronous Step-Down Converter, 4.5-V to 17-V Input; Manufacturer: Texas Instruments; PartNumber: TPS560200DBV
footprint TI-DBV5_M (SOT23, 5-Leads, Body 2.9x1.6mm, Pitch 0.95mm, IPC Low Density)
pins: 1 EN "Enable input", 2 GND (power) "Ground", 3 PH (power) "Regulated output voltage", 4 VIN (power) "Input supply voltage", 5 VS "No connected"

## TPSM84205
designator DA?
1.5A 5Vout up to 28 Vin StepDown module; Manufacturer: Texas Instrument; PartNumber: TPSM84205
footprint EAB (SIP-3 DCDC Module)
pins: 1 VIN (power), 2 GND (power), 3 VOUT (power)

## TPSM84212
designator DA?
1.5A 12Vout up to 28 Vin StepDown module; Manufacturer: Texas Instrument; PartNumber: TPSM84212
footprint EAB (SIP-3 DCDC Module)
pins: 1 VIN (power), 2 GND (power), 3 VOUT (power)

## Trans_Wire_Comp
designator T?
Wire Compensation Transformer; PartNumber: AMAK; Manufacturer: Oltest
footprint Trans_M402

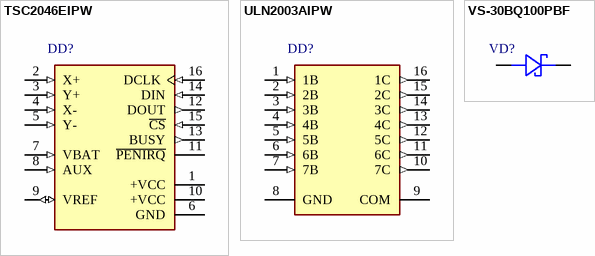
[diagram p8: symbols TSC2046EIPW to VS-30BQ100PBF]